# Altium integrated library Renesas Microcontroller H8S.IntLib: 670 symbols (part 25 of 70)
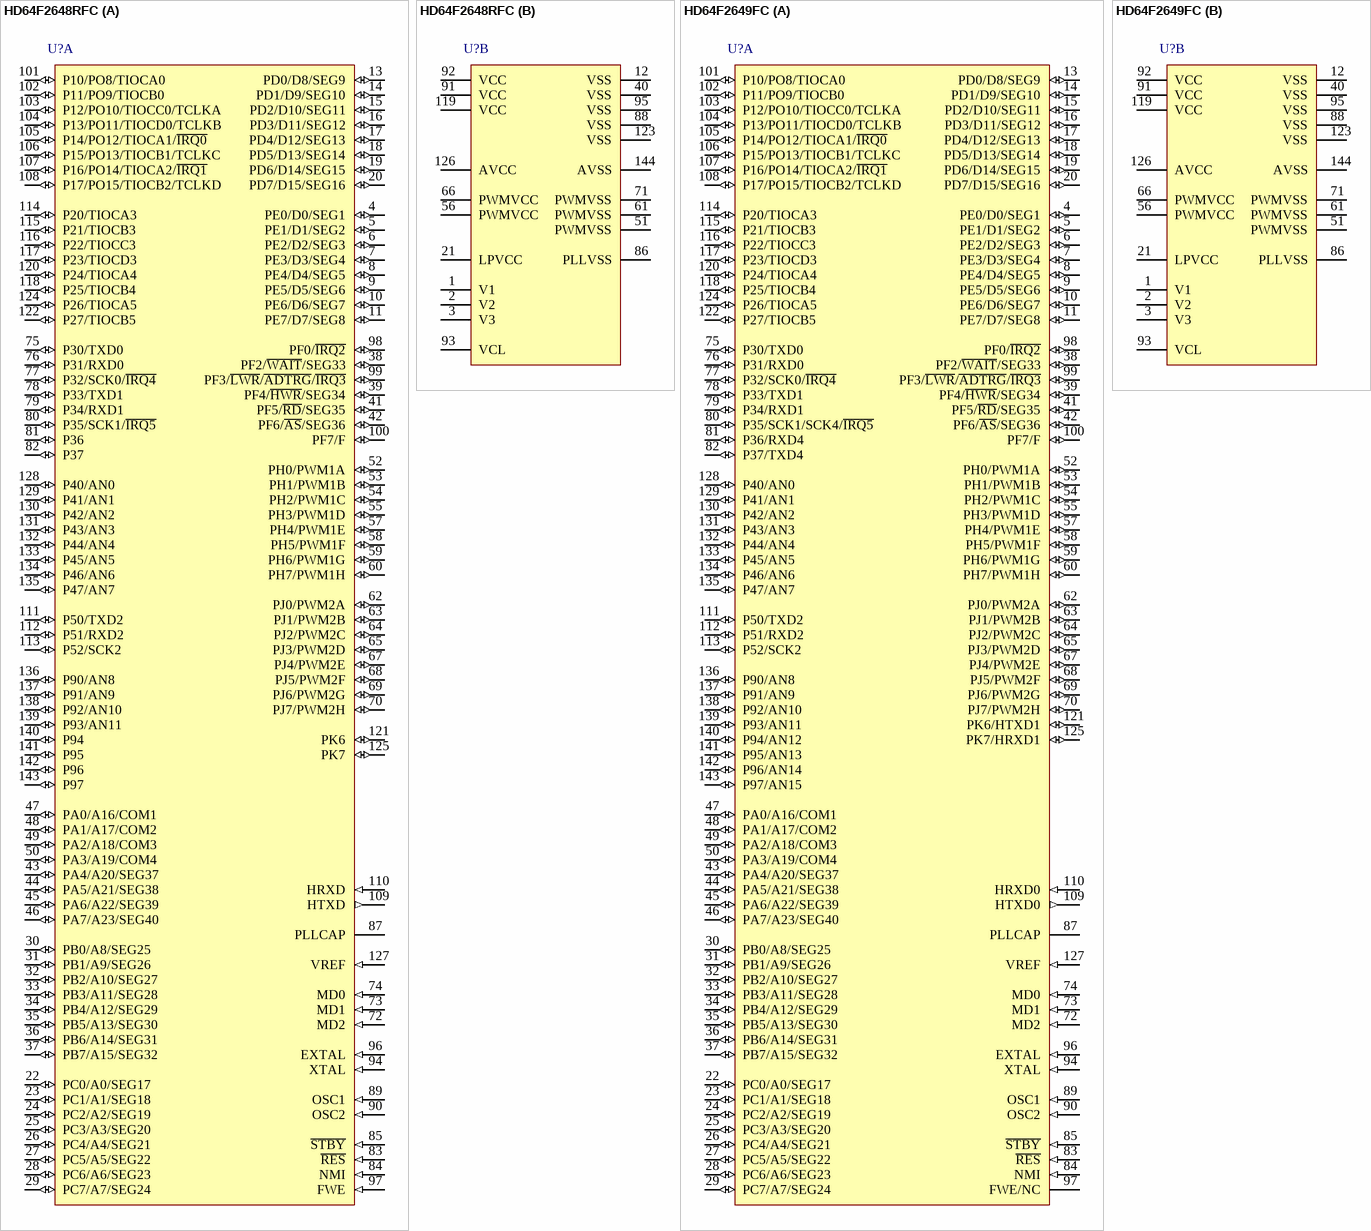
[diagram p257: symbols HD64F2648RFC to HD64F2649FC]

## HD64F2649FC
designator U?
Flash memory H8S/2600 Series, 2649 Group MCU, 256K ROM, 8K RAM, FP-144G Pkg; Published: 28-Aug-2009; DatasheetVersion: Rev.3.00, Feb-2009; PackageVersion: Sep-2005; PackageReference: PRQP0144KA-A; Publisher: Altium Limited; PackageDescription: 144-Pin Plastic Quad Flat Pack, 20 x 20 x 2.7 mm Body, 0.5 mm Pitch; Code_JEITA: P-QFP144-20x20-0.50; ComponentLink1Description: Manufacturer Link; ComponentLink1URL: http://sg.renesas.com/fmwk.jsp?cnt=h8s_family_landing.jsp&fp=/products/mpumcu/h8s_family/; ComponentLink2Description: Datasheet; ComponentLink2URL: http://documentation.renesas.com/eng/products/mpumcu/rej09b0200_h8s2649.pdf; ComponentLink3Description: Packaging Specification; ComponentLink3URL: http://sg.renesas.com/media/products/common_info/package/pdf/ic/code/prqp0144ka_a.pdf
footprint PRQP0144KA-A_N (Shrink QFP, 144-Leads, Body 20x20mm, Pitch 0.5mm, IPC Medium Density)
footprint PRQP0144KA-A_L (Shrink QFP, 144-Leads, Body 20x20mm, Pitch 0.5mm, IPC High Density)
footprint PRQP0144KA-A_M (Shrink QFP, 144-Leads, Body 20x20mm, Pitch 0.5mm, IPC Low Density)
part A pins: 4 PE0/D0/SEG1 (io), 5 PE1/D1/SEG2 (io), 6 PE2/D2/SEG3 (io), 7 PE3/D3/SEG4 (io), 8 PE4/D4/SEG5 (io), 9 PE5/D5/SEG6 (io), 10 PE6/D6/SEG7 (io), 11 PE7/D7/SEG8 (io), 13 PD0/D8/SEG9 (io), 14 PD1/D9/SEG10 (io), 15 PD2/D10/SEG11 (io), 16 PD3/D11/SEG12 (io), 17 PD4/D12/SEG13 (io), 18 PD5/D13/SEG14 (io), 19 PD6/D14/SEG15 (io), 20 PD7/D15/SEG16 (io), 22 PC0/A0/SEG17 (io), 23 PC1/A1/SEG18 (io), 24 PC2/A2/SEG19 (io), 25 PC3/A3/SEG20 (io), 26 PC4/A4/SEG21 (io), 27 PC5/A5/SEG22 (io), 28 PC6/A6/SEG23 (io), 29 PC7/A7/SEG24 (io), 30 PB0/A8/SEG25 (io), 31 PB1/A9/SEG26 (io), 32 PB2/A10/SEG27 (io), 33 PB3/A11/SEG28 (io), 34 PB4/A12/SEG29 (io), 35 PB5/A13/SEG30 (io), 36 PB6/A14/SEG31 (io), 37 PB7/A15/SEG32 (io), 38 PF2/~{WAIT}/SEG33 (io), 39 PF4/~{HWR}/SEG34 (io), 41 PF5/~{RD}/SEG35 (io), 42 PF6/~{AS}/SEG36 (io), 43 PA4/A20/SEG37 (io), 44 PA5/A21/SEG38 (io), 45 PA6/A22/SEG39 (io), 46 PA7/A23/SEG40 (io), 47 PA0/A16/COM1 (io), 48 PA1/A17/COM2 (io), 49 PA2/A18/COM3 (io), 50 PA3/A19/COM4 (io), 52 PH0/PWM1A (io), 53 PH1/PWM1B (io), 54 PH2/PWM1C (io), 55 PH3/PWM1D (io), 57 PH4/PWM1E (io), 58 PH5/PWM1F (io), 59 PH6/PWM1G (io), 60 PH7/PWM1H (io), 62 PJ0/PWM2A (io), 63 PJ1/PWM2B (io), 64 PJ2/PWM2C (io), 65 PJ3/PWM2D (io), 67 PJ4/PWM2E (io), 68 PJ5/PWM2F (io), 69 PJ6/PWM2G (io), 70 PJ7/PWM2H (io), 72 MD2 (in), 73 MD1 (in), 74 MD0 (in), 75 P30/TXD0 (io), 76 P31/RXD0 (io), 77 P32/SCK0/~{IRQ4} (io), 78 P33/TXD1 (io), 79 P34/RXD1 (io), 80 P35/SCK1/SCK4/~{IRQ5} (io), 81 P36/RXD4 (io), 82 P37/TXD4 (io), 83 ~{RES} (in), 84 NMI (in), 85 ~{STBY} (in), 87 PLLCAP, 89 OSC1 (in), 90 OSC2 (in), 94 XTAL (in), 96 EXTAL (in), 97 FWE/NC, 98 PF0/~{IRQ2} (io), 99 PF3/~{LWR}/~{ADTRG}/~{IRQ3} (io), 100 PF7/F (io), 101 P10/PO8/TIOCA0 (io), 102 P11/PO9/TIOCB0 (io), 103 P12/PO10/TIOCC0/TCLKA (io), 104 P13/PO11/TIOCD0/TCLKB (io), 105 P14/PO12/TIOCA1/~{IRQ0} (io), 106 P15/PO13/TIOCB1/TCLKC (io), 107 P16/PO14/TIOCA2/~{IRQ1} (io), 108 P17/PO15/TIOCB2/TCLKD (io), 109 HTXD0 (out), 110 HRXD0 (in), 111 P50/TXD2 (io), 112 P51/RXD2 (io), 113 P52/SCK2 (io), 114 P20/TIOCA3 (io), 115 P21/TIOCB3 (io), 116 P22/TIOCC3 (io), 117 P23/TIOCD3 (io), 118 P25/TIOCB4 (io), 120 P24/TIOCA4 (io), 121 PK6/HTXD1 (io), 122 P27/TIOCB5 (io), 124 P26/TIOCA5 (io), 125 PK7/HRXD1 (io), 127 VREF (in), 128 P40/AN0 (io), 129 P41/AN1 (io), 130 P42/AN2 (io), 131 P43/AN3 (io), 132 P44/AN4 (io), 133 P45/AN5 (io), 134 P46/AN6 (io), 135 P47/AN7 (io), 136 P90/AN8 (io), 137 P91/AN9 (io), 138 P92/AN10 (io), 139 P93/AN11 (io), 140 P94/AN12 (io), 141 P95/AN13 (io), 142 P96/AN14 (io), 143 P97/AN15 (io)
part B pins: 1 V1 (power), 2 V2 (power), 3 V3 (power), 12 VSS (power), 21 LPVCC (power), 40 VSS (power), 51 PWMVSS (power), 56 PWMVCC (power), 61 PWMVSS (power), 66 PWMVCC (power), 71 PWMVSS (power), 86 PLLVSS (power), 88 VSS (power), 91 VCC (power), 92 VCC (power), 93 VCL, 95 VSS (power), 119 VCC (power), 123 VSS (power), 126 AVCC (power), 144 AVSS (power)

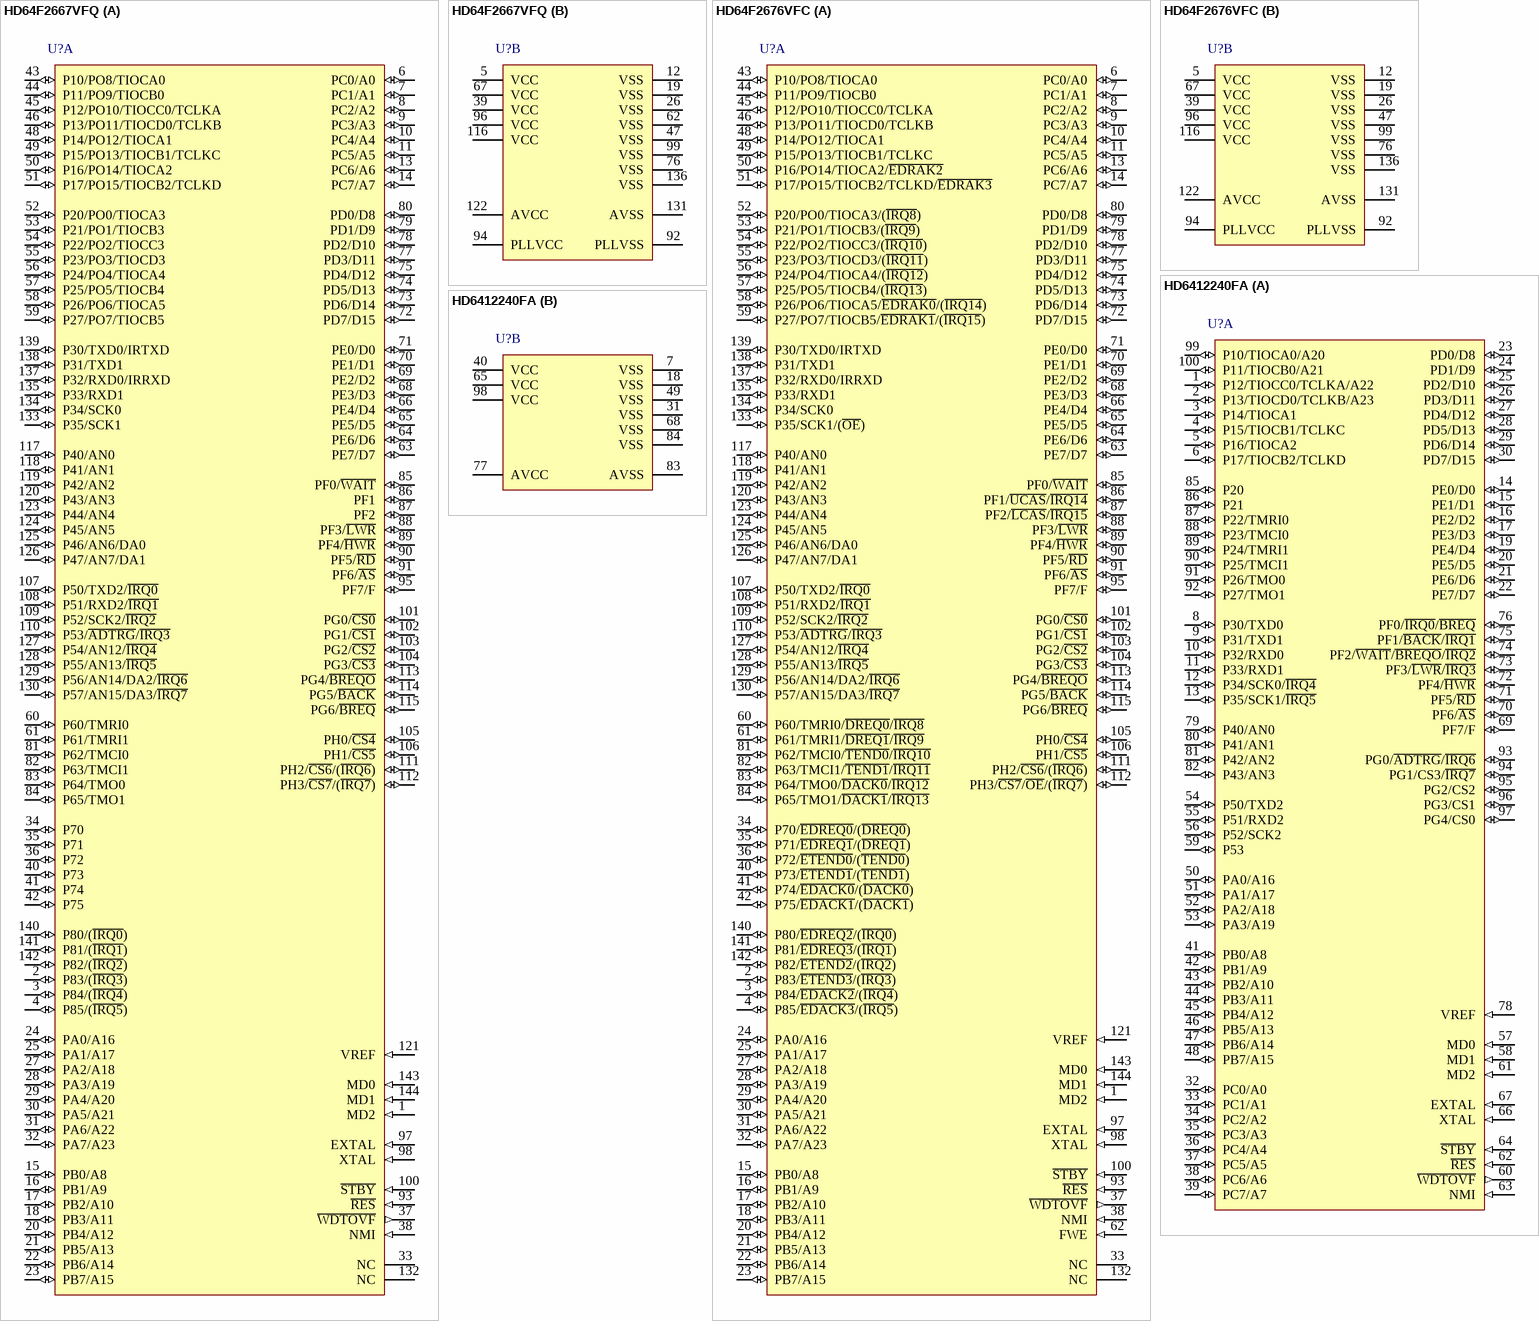
[diagram p87: symbols HD64F2667VFQ to HD6412240FA]

## HD64F2667VFQ
designator U?
Flash memory H8S/2600 Series, 2668 Group MCU, 384K ROM, 16K RAM, FP-144H Pkg; Published: 28-Aug-2009; DatasheetVersion: Rev.3.00, Feb-2006; PackageVersion: Sep-2005; PackageReference: PLQP0144KC-A; Publisher: Altium Limited; PackageDescription: 144-Pin Plastic Low Profile QFP, 20 x 20 x 1.45 mm Body, 0.5 mm Pitch; Code_JEITA: P-LQFP144-20x20-0.50; Code_IPC: SQFP50P2200X2200-144; ComponentLink1Description: Manufacturer Link; ComponentLink1URL: http://sg.renesas.com/fmwk.jsp?cnt=h8s_family_landing.jsp&fp=/products/mpumcu/h8s_family/; ComponentLink2Description: Datasheet; ComponentLink2URL: http://documentation.renesas.com/eng/products/mpumcu/rej09b0281_2668hm.pdf; ComponentLink3Description: Packaging Specification; ComponentLink3URL: http://sg.renesas.com/media/products/common_info/package/pdf/ic/code/plqp0144kc_a.pdf
footprint PLQP0144KC-A_N (Shrink QFP, 144-Leads, Body 20x20mm, Pitch 0.5mm, IPC Medium Density)
footprint PLQP0144KC-A_L (Shrink QFP, 144-Leads, Body 20x20mm, Pitch 0.5mm, IPC High Density)
footprint PLQP0144KC-A_M (Shrink QFP, 144-Leads, Body 20x20mm, Pitch 0.5mm, IPC Low Density)
part A pins: 1 MD2 (in), 2 P83/(~{IRQ3}) (io), 3 P84/(~{IRQ4}) (io), 4 P85/(~{IRQ5}) (io), 6 PC0/A0 (io), 7 PC1/A1 (io), 8 PC2/A2 (io), 9 PC3/A3 (io), 10 PC4/A4 (io), 11 PC5/A5 (io), 13 PC6/A6 (io), 14 PC7/A7 (io), 15 PB0/A8 (io), 16 PB1/A9 (io), 17 PB2/A10 (io), 18 PB3/A11 (io), 20 PB4/A12 (io), 21 PB5/A13 (io), 22 PB6/A14 (io), 23 PB7/A15 (io), 24 PA0/A16 (io), 25 PA1/A17 (io), 27 PA2/A18 (io), 28 PA3/A19 (io), 29 PA4/A20 (io), 30 PA5/A21 (io), 31 PA6/A22 (io), 32 PA7/A23 (io), 33 NC, 34 P70 (io), 35 P71 (io), 36 P72 (io), 37 ~{WDTOVF} (out), 38 NMI (in), 40 P73 (io), 41 P74 (io), 42 P75 (io), 43 P10/PO8/TIOCA0 (io), 44 P11/PO9/TIOCB0 (io), 45 P12/PO10/TIOCC0/TCLKA (io), 46 P13/PO11/TIOCD0/TCLKB (io), 48 P14/PO12/TIOCA1 (io), 49 P15/PO13/TIOCB1/TCLKC (io), 50 P16/PO14/TIOCA2 (io), 51 P17/PO15/TIOCB2/TCLKD (io), 52 P20/PO0/TIOCA3 (io), 53 P21/PO1/TIOCB3 (io), 54 P22/PO2/TIOCC3 (io), 55 P23/PO3/TIOCD3 (io), 56 P24/PO4/TIOCA4 (io), 57 P25/PO5/TIOCB4 (io), 58 P26/PO6/TIOCA5 (io), 59 P27/PO7/TIOCB5 (io), 60 P60/TMRI0 (io), 61 P61/TMRI1 (io), 63 PE7/D7 (io), 64 PE6/D6 (io), 65 PE5/D5 (io), 66 PE4/D4 (io), 68 PE3/D3 (io), 69 PE2/D2 (io), 70 PE1/D1 (io), 71 PE0/D0 (io), 72 PD7/D15 (io), 73 PD6/D14 (io), 74 PD5/D13 (io), 75 PD4/D12 (io), 77 PD3/D11 (io), 78 PD2/D10 (io), 79 PD1/D9 (io), 80 PD0/D8 (io), 81 P62/TMCI0 (io), 82 P63/TMCI1 (io), 83 P64/TMO0 (io), 84 P65/TMO1 (io), 85 PF0/~{WAIT} (io), 86 PF1 (io), 87 PF2 (io), 88 PF3/~{LWR} (io), 89 PF4/~{HWR} (io), 90 PF5/~{RD} (io), 91 PF6/~{AS} (io), 93 ~{RES} (in), 95 PF7/F (io), 97 EXTAL (in), 98 XTAL (in), 100 ~{STBY} (in), 101 PG0/~{CS0} (io), 102 PG1/~{CS1} (io), 103 PG2/~{CS2} (io), 104 PG3/~{CS3} (io), 105 PH0/~{CS4} (io), 106 PH1/~{CS5} (io), 107 P50/TXD2/~{IRQ0} (io), 108 P51/RXD2/~{IRQ1} (io), 109 P52/SCK2/~{IRQ2} (io), 110 P53/~{ADTRG}/~{IRQ3} (io), 111 PH2/~{CS6}/(~{IRQ6}) (io), 112 PH3/~{CS7}/(~{IRQ7}) (io), 113 PG4/~{BREQO} (io), 114 PG5/~{BACK} (io), 115 PG6/~{BREQ} (io), 117 P40/AN0 (io), 118 P41/AN1 (io), 119 P42/AN2 (io), 120 P43/AN3 (io), 121 VREF (in), 123 P44/AN4 (io), 124 P45/AN5 (io), 125 P46/AN6/DA0 (io), 126 P47/AN7/DA1 (io), 127 P54/AN12/~{IRQ4} (io), 128 P55/AN13/~{IRQ5} (io), 129 P56/AN14/DA2/~{IRQ6} (io), 130 P57/AN15/DA3/~{IRQ7} (io), 132 NC, 133 P35/SCK1 (io), 134 P34/SCK0 (io), 135 P33/RXD1 (io), 137 P32/RXD0/IRRXD (io), 138 P31/TXD1 (io), 139 P30/TXD0/IRTXD (io), 140 P80/(~{IRQ0}) (io), 141 P81/(~{IRQ1}) (io), 142 P82/(~{IRQ2}) (io), 143 MD0 (in), 144 MD1 (in)
part B pins: 5 VCC (power), 12 VSS (power), 19 VSS (power), 26 VSS (power), 39 VCC (power), 47 VSS (power), 62 VSS (power), 67 VCC (power), 76 VSS (power), 92 PLLVSS (power), 94 PLLVCC (power), 96 VCC (power), 99 VSS (power), 116 VCC (power), 122 AVCC (power), 131 AVSS (power), 136 VSS (power)

## HD64F2676VFC
designator U?
Flash memory H8S/2600 Series, 2678 Group MCU, 256K ROM, 8K RAM, FP-144G Pkg; Published: 28-Aug-2009; DatasheetVersion: Rev.3.00, Mar-2006; PackageVersion: Sep-2005; PackageReference: PRQP0144KA-A; Publisher: Altium Limited; PackageDescription: 144-Pin Plastic Quad Flat Pack, 20 x 20 x 2.7 mm Body, 0.5 mm Pitch; Code_JEITA: P-QFP144-20x20-0.50; ComponentLink1Description: Manufacturer Link; ComponentLink1URL: http://sg.renesas.com/fmwk.jsp?cnt=h8s_family_landing.jsp&fp=/products/mpumcu/h8s_family/; ComponentLink2Description: Datasheet; ComponentLink2URL: http://documentation.renesas.com/eng/products/mpumcu/rej09b0283_2678hm.pdf; ComponentLink3Description: Packaging Specification; ComponentLink3URL: http://sg.renesas.com/media/products/common_info/package/pdf/ic/code/prqp0144ka_a.pdf
footprint PRQP0144KA-A_N (Shrink QFP, 144-Leads, Body 20x20mm, Pitch 0.5mm, IPC Medium Density)
footprint PRQP0144KA-A_L (Shrink QFP, 144-Leads, Body 20x20mm, Pitch 0.5mm, IPC High Density)
footprint PRQP0144KA-A_M (Shrink QFP, 144-Leads, Body 20x20mm, Pitch 0.5mm, IPC Low Density)
part A pins: 1 MD2 (in), 2 P83/~{ETEND3}/(~{IRQ3}) (io), 3 P84/~{EDACK2}/(~{IRQ4}) (io), 4 P85/~{EDACK3}/(~{IRQ5}) (io), 6 PC0/A0 (io), 7 PC1/A1 (io), 8 PC2/A2 (io), 9 PC3/A3 (io), 10 PC4/A4 (io), 11 PC5/A5 (io), 13 PC6/A6 (io), 14 PC7/A7 (io), 15 PB0/A8 (io), 16 PB1/A9 (io), 17 PB2/A10 (io), 18 PB3/A11 (io), 20 PB4/A12 (io), 21 PB5/A13 (io), 22 PB6/A14 (io), 23 PB7/A15 (io), 24 PA0/A16 (io), 25 PA1/A17 (io), 27 PA2/A18 (io), 28 PA3/A19 (io), 29 PA4/A20 (io), 30 PA5/A21 (io), 31 PA6/A22 (io), 32 PA7/A23 (io), 33 NC, 34 P70/~{EDREQ0}/(~{DREQ0}) (io), 35 P71/~{EDREQ1}/(~{DREQ1}) (io), 36 P72/~{ETEND0}/(~{TEND0}) (io), 37 ~{WDTOVF} (out), 38 NMI (in), 40 P73/~{ETEND1}/(~{TEND1}) (io), 41 P74/~{EDACK0}/(~{DACK0}) (io), 42 P75/~{EDACK1}/(~{DACK1}) (io), 43 P10/PO8/TIOCA0 (io), 44 P11/PO9/TIOCB0 (io), 45 P12/PO10/TIOCC0/TCLKA (io), 46 P13/PO11/TIOCD0/TCLKB (io), 48 P14/PO12/TIOCA1 (io), 49 P15/PO13/TIOCB1/TCLKC (io), 50 P16/PO14/TIOCA2/~{EDRAK2} (io), 51 P17/PO15/TIOCB2/TCLKD/~{EDRAK3} (io), 52 P20/PO0/TIOCA3/(~{IRQ8}) (io), 53 P21/PO1/TIOCB3/(~{IRQ9}) (io), 54 P22/PO2/TIOCC3/(~{IRQ10}) (io), 55 P23/PO3/TIOCD3/(~{IRQ11}) (io), 56 P24/PO4/TIOCA4/(~{IRQ12}) (io), 57 P25/PO5/TIOCB4/(~{IRQ13}) (io), 58 P26/PO6/TIOCA5/~{EDRAK0}/(~{IRQ14}) (io), 59 P27/PO7/TIOCB5/~{EDRAK1}/(~{IRQ15}) (io), 60 P60/TMRI0/~{DREQ0}/~{IRQ8} (io), 61 P61/TMRI1/~{DREQ1}/~{IRQ9} (io), 62 FWE (in), 63 PE7/D7 (io), 64 PE6/D6 (io), 65 PE5/D5 (io), 66 PE4/D4 (io), 68 PE3/D3 (io), 69 PE2/D2 (io), 70 PE1/D1 (io), 71 PE0/D0 (io), 72 PD7/D15 (io), 73 PD6/D14 (io), 74 PD5/D13 (io), 75 PD4/D12 (io), 77 PD3/D11 (io), 78 PD2/D10 (io), 79 PD1/D9 (io), 80 PD0/D8 (io), 81 P62/TMCI0/~{TEND0}/~{IRQ10} (io), 82 P63/TMCI1/~{TEND1}/~{IRQ11} (io), 83 P64/TMO0/~{DACK0}/~{IRQ12} (io), 84 P65/TMO1/~{DACK1}/~{IRQ13} (io), 85 PF0/~{WAIT} (io), 86 PF1/~{UCAS}/~{IRQ14} (io), 87 PF2/~{LCAS}/~{IRQ15} (io), 88 PF3/~{LWR} (io), 89 PF4/~{HWR} (io), 90 PF5/~{RD} (io), 91 PF6/~{AS} (io), 93 ~{RES} (in), 95 PF7/F (io), 97 EXTAL (in), 98 XTAL (in), 100 ~{STBY} (in), 101 PG0/~{CS0} (io), 102 PG1/~{CS1} (io), 103 PG2/~{CS2} (io), 104 PG3/~{CS3} (io), 105 PH0/~{CS4} (io), 106 PH1/~{CS5} (io), 107 P50/TXD2/~{IRQ0} (io), 108 P51/RXD2/~{IRQ1} (io), 109 P52/SCK2/~{IRQ2} (io), 110 P53/~{ADTRG}/~{IRQ3} (io), 111 PH2/~{CS6}/(~{IRQ6}) (io), 112 PH3/~{CS7}/~{OE}/(~{IRQ7}) (io), 113 PG4/~{BREQO} (io), 114 PG5/~{BACK} (io), 115 PG6/~{BREQ} (io), 117 P40/AN0 (io), 118 P41/AN1 (io), 119 P42/AN2 (io), 120 P43/AN3 (io), 121 VREF (in), 123 P44/AN4 (io), 124 P45/AN5 (io), 125 P46/AN6/DA0 (io), 126 P47/AN7/DA1 (io), 127 P54/AN12/~{IRQ4} (io), 128 P55/AN13/~{IRQ5} (io), 129 P56/AN14/DA2/~{IRQ6} (io), 130 P57/AN15/DA3/~{IRQ7} (io), 132 NC, 133 P35/SCK1/(~{OE}) (io), 134 P34/SCK0 (io), 135 P33/RXD1 (io), 137 P32/RXD0/IRRXD (io), 138 P31/TXD1 (io), 139 P30/TXD0/IRTXD (io), 140 P80/~{EDREQ2}/(~{IRQ0}) (io), 141 P81/~{EDREQ3}/(~{IRQ1}) (io), 142 P82/~{ETEND2}/(~{IRQ2}) (io), 143 MD0 (in), 144 MD1 (in)
part B pins: 5 VCC (power), 12 VSS (power), 19 VSS (power), 26 VSS (power), 39 VCC (power), 47 VSS (power), 67 VCC (power), 76 VSS (power), 92 PLLVSS (power), 94 PLLVCC (power), 96 VCC (power), 99 VSS (power), 116 VCC (power), 122 AVCC (power), 131 AVSS (power), 136 VSS (power)

## HD6412240FA
designator U?
ROMless H8S/2200 Series, 2245 Group MCU, 4K RAM, FP-100B Pkg; Published: 28-Aug-2009; DatasheetVersion: Rev.3.00, Mar-2007; PackageVersion: Sep-2009; PackageReference: PRQP0100KA-A; Publisher: Altium Limited; PackageDescription: 100-Pin Plastic Quad Flat Pack, 14 x 14 x 2.7 mm Body, 0.5 mm Pitch; Code_JEITA: P-QFP100-14x14-0.50; ComponentLink1Description: Manufacturer Link; ComponentLink1URL: http://sg.renesas.com/fmwk.jsp?cnt=h8s_family_landing.jsp&fp=/products/mpumcu/h8s_family/; ComponentLink2Description: Datasheet; ComponentLink2URL: http://documentation.renesas.com/eng/products/mpumcu/rej09b0355_2245hm.pdf; ComponentLink3Description: Packaging Specification; ComponentLink3URL: http://sg.renesas.com/media/products/common_info/package/pdf/ic/code/prqp0100ka_a.pdf
footprint PRQP0100KA-A_N (Shrink QFP, 100-Leads, Body 14x14mm, Pitch 0.5mm, IPC Medium Density)
footprint PRQP0100KA-A_L (Shrink QFP, 100-Leads, Body 14x14mm, Pitch 0.5mm, IPC High Density)
footprint PRQP0100KA-A_M (Shrink QFP, 100-Leads, Body 14x14mm, Pitch 0.5mm, IPC Low Density)
part A pins: 1 P12/TIOCC0/TCLKA/A22 (io), 2 P13/TIOCD0/TCLKB/A23 (io), 3 P14/TIOCA1 (io), 4 P15/TIOCB1/TCLKC (io), 5 P16/TIOCA2 (io), 6 P17/TIOCB2/TCLKD (io), 8 P30/TXD0 (io), 9 P31/TXD1 (io), 10 P32/RXD0 (io), 11 P33/RXD1 (io), 12 P34/SCK0/~{IRQ4} (io), 13 P35/SCK1/~{IRQ5} (io), 14 PE0/D0 (io), 15 PE1/D1 (io), 16 PE2/D2 (io), 17 PE3/D3 (io), 19 PE4/D4 (io), 20 PE5/D5 (io), 21 PE6/D6 (io), 22 PE7/D7 (io), 23 PD0/D8 (io), 24 PD1/D9 (io), 25 PD2/D10 (io), 26 PD3/D11 (io), 27 PD4/D12 (io), 28 PD5/D13 (io), 29 PD6/D14 (io), 30 PD7/D15 (io), 32 PC0/A0 (io), 33 PC1/A1 (io), 34 PC2/A2 (io), 35 PC3/A3 (io), 36 PC4/A4 (io), 37 PC5/A5 (io), 38 PC6/A6 (io), 39 PC7/A7 (io), 41 PB0/A8 (io), 42 PB1/A9 (io), 43 PB2/A10 (io), 44 PB3/A11 (io), 45 PB4/A12 (io), 46 PB5/A13 (io), 47 PB6/A14 (io), 48 PB7/A15 (io), 50 PA0/A16 (io), 51 PA1/A17 (io), 52 PA2/A18 (io), 53 PA3/A19 (io), 54 P50/TXD2 (io), 55 P51/RXD2 (io), 56 P52/SCK2 (io), 57 MD0 (in), 58 MD1 (in), 59 P53 (io), 60 ~{WDTOVF} (out), 61 MD2 (in), 62 ~{RES} (in), 63 NMI (in), 64 ~{STBY} (in), 66 XTAL (in), 67 EXTAL (in), 69 PF7/F (io), 70 PF6/~{AS} (io), 71 PF5/~{RD} (io), 72 PF4/~{HWR} (io), 73 PF3/~{LWR}/~{IRQ3} (io), 74 PF2/~{WAIT}/~{BREQO}/~{IRQ2} (io), 75 PF1/~{BACK}/~{IRQ1} (io), 76 PF0/~{IRQ0}/~{BREQ} (io), 78 VREF (in), 79 P40/AN0 (io), 80 P41/AN1 (io), 81 P42/AN2 (io), 82 P43/AN3 (io), 85 P20 (io), 86 P21 (io), 87 P22/TMRI0 (io), 88 P23/TMCI0 (io), 89 P24/TMRI1 (io), 90 P25/TMCI1 (io), 91 P26/TMO0 (io), 92 P27/TMO1 (io), 93 PG0/~{ADTRG}/~{IRQ6} (io), 94 PG1/CS3/~{IRQ7} (io), 95 PG2/CS2 (io), 96 PG3/CS1 (io), 97 PG4/CS0 (io), 99 P10/TIOCA0/A20 (io), 100 P11/TIOCB0/A21 (io)
part B pins: 7 VSS (power), 18 VSS (power), 31 VSS (power), 40 VCC (power), 49 VSS (power), 65 VCC (power), 68 VSS (power), 77 AVCC (power), 83 AVSS (power), 84 VSS (power), 98 VCC (power)

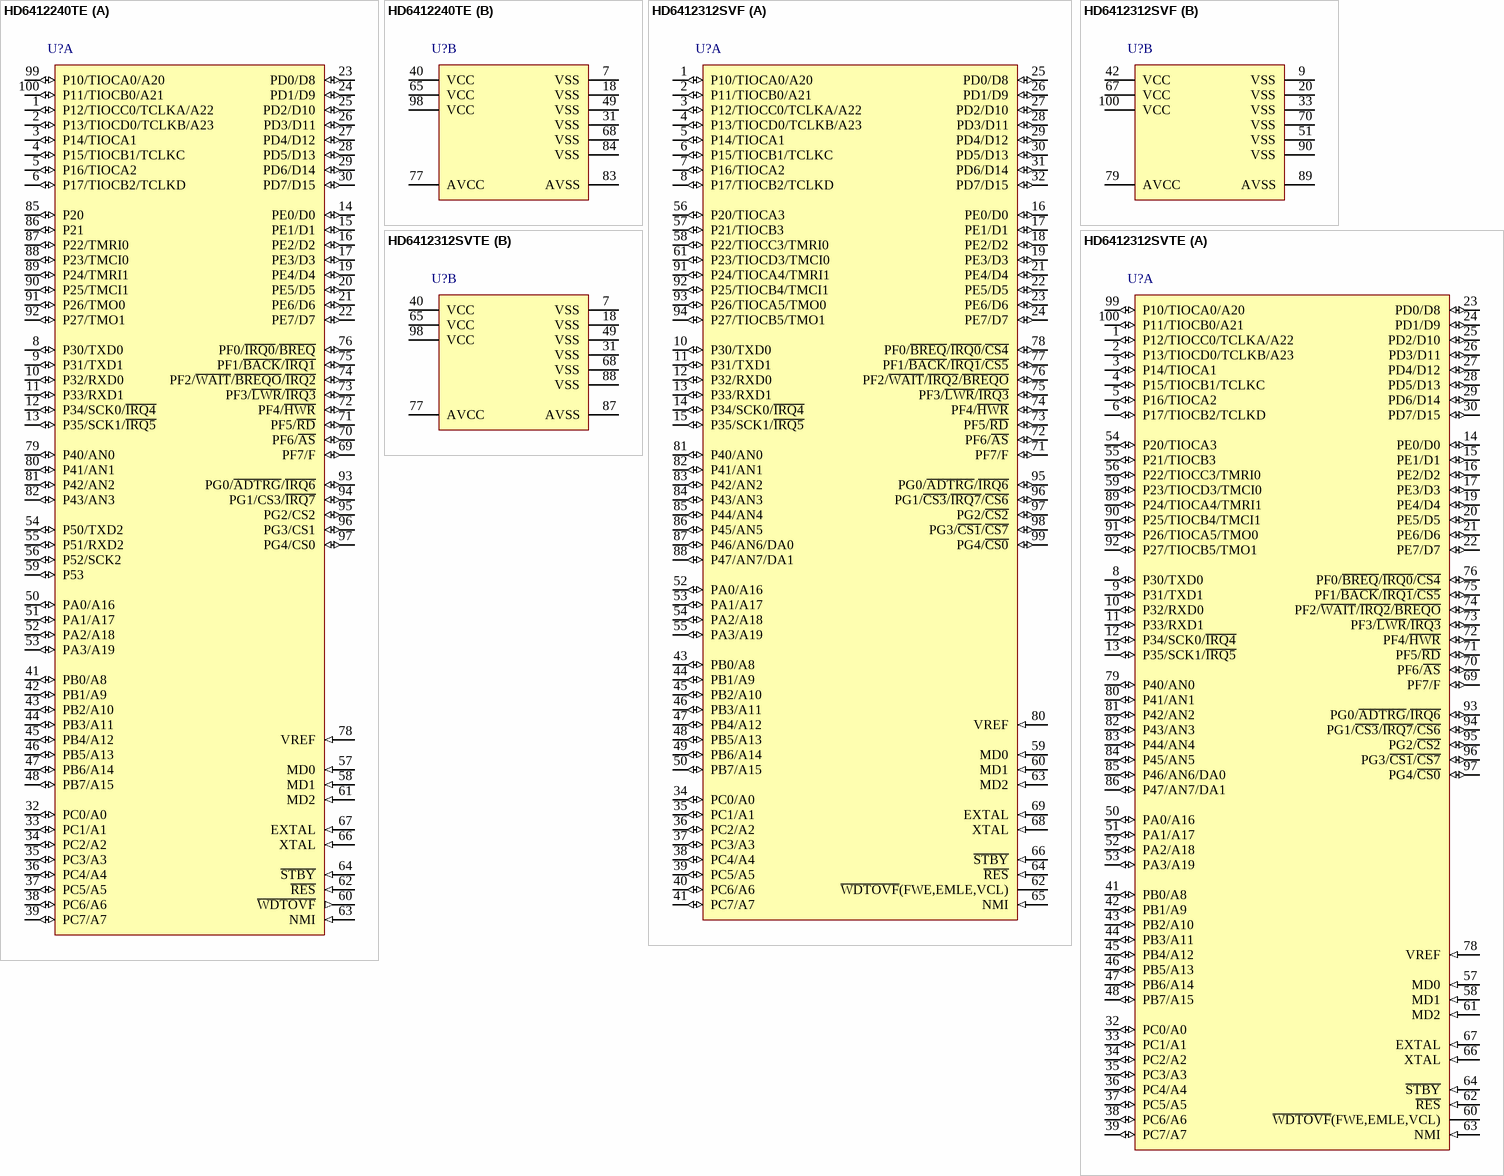
[diagram p88: symbols HD6412240TE to HD6412312SVTE]

## HD6412240TE
designator U?
ROMless H8S/2200 Series, 2245 Group MCU, 4K RAM, TFP-100B Pkg; Published: 28-Aug-2009; DatasheetVersion: Rev.3.00, Mar-2007; PackageVersion: Sep-2005; PackageReference: PTQP0100KA-A; Publisher: Altium Limited; PackageDescription: 100-Pin Plastic Thin Quad Flat Pack, 14 x 14 x 1.0 mm Body, 0.5 mm Pitch; Code_JEITA: P-TQFP100-14x14-0.50; ComponentLink1Description: Manufacturer Link; ComponentLink1URL: http://sg.renesas.com/fmwk.jsp?cnt=h8s_family_landing.jsp&fp=/products/mpumcu/h8s_family/; ComponentLink2Description: Datasheet; ComponentLink2URL: http://documentation.renesas.com/eng/products/mpumcu/rej09b0355_2245hm.pdf; ComponentLink3Description: Packaging Specification; ComponentLink3URL: http://sg.renesas.com/media/products/common_info/package/pdf/ic/code/ptqp0100ka_a.pdf
footprint PTQP0100KA-A_N (Thin QFP, 100-Leads, Body 14x14mm, Pitch 0.5mm, IPC Medium Density)
footprint PTQP0100KA-A_L (Thin QFP, 100-Leads, Body 14x14mm, Pitch 0.5mm, IPC High Density)
footprint PTQP0100KA-A_M (Thin QFP, 100-Leads, Body 14x14mm, Pitch 0.5mm, IPC Low Density)
part A pins: 1 P12/TIOCC0/TCLKA/A22 (io), 2 P13/TIOCD0/TCLKB/A23 (io), 3 P14/TIOCA1 (io), 4 P15/TIOCB1/TCLKC (io), 5 P16/TIOCA2 (io), 6 P17/TIOCB2/TCLKD (io), 8 P30/TXD0 (io), 9 P31/TXD1 (io), 10 P32/RXD0 (io), 11 P33/RXD1 (io), 12 P34/SCK0/~{IRQ4} (io), 13 P35/SCK1/~{IRQ5} (io), 14 PE0/D0 (io), 15 PE1/D1 (io), 16 PE2/D2 (io), 17 PE3/D3 (io), 19 PE4/D4 (io), 20 PE5/D5 (io), 21 PE6/D6 (io), 22 PE7/D7 (io), 23 PD0/D8 (io), 24 PD1/D9 (io), 25 PD2/D10 (io), 26 PD3/D11 (io), 27 PD4/D12 (io), 28 PD5/D13 (io), 29 PD6/D14 (io), 30 PD7/D15 (io), 32 PC0/A0 (io), 33 PC1/A1 (io), 34 PC2/A2 (io), 35 PC3/A3 (io), 36 PC4/A4 (io), 37 PC5/A5 (io), 38 PC6/A6 (io), 39 PC7/A7 (io), 41 PB0/A8 (io), 42 PB1/A9 (io), 43 PB2/A10 (io), 44 PB3/A11 (io), 45 PB4/A12 (io), 46 PB5/A13 (io), 47 PB6/A14 (io), 48 PB7/A15 (io), 50 PA0/A16 (io), 51 PA1/A17 (io), 52 PA2/A18 (io), 53 PA3/A19 (io), 54 P50/TXD2 (io), 55 P51/RXD2 (io), 56 P52/SCK2 (io), 57 MD0 (in), 58 MD1 (in), 59 P53 (io), 60 ~{WDTOVF} (out), 61 MD2 (in), 62 ~{RES} (in), 63 NMI (in), 64 ~{STBY} (in), 66 XTAL (in), 67 EXTAL (in), 69 PF7/F (io), 70 PF6/~{AS} (io), 71 PF5/~{RD} (io), 72 PF4/~{HWR} (io), 73 PF3/~{LWR}/~{IRQ3} (io), 74 PF2/~{WAIT}/~{BREQO}/~{IRQ2} (io), 75 PF1/~{BACK}/~{IRQ1} (io), 76 PF0/~{IRQ0}/~{BREQ} (io), 78 VREF (in), 79 P40/AN0 (io), 80 P41/AN1 (io), 81 P42/AN2 (io), 82 P43/AN3 (io), 85 P20 (io), 86 P21 (io), 87 P22/TMRI0 (io), 88 P23/TMCI0 (io), 89 P24/TMRI1 (io), 90 P25/TMCI1 (io), 91 P26/TMO0 (io), 92 P27/TMO1 (io), 93 PG0/~{ADTRG}/~{IRQ6} (io), 94 PG1/CS3/~{IRQ7} (io), 95 PG2/CS2 (io), 96 PG3/CS1 (io), 97 PG4/CS0 (io), 99 P10/TIOCA0/A20 (io), 100 P11/TIOCB0/A21 (io)
part B pins: 7 VSS (power), 18 VSS (power), 31 VSS (power), 40 VCC (power), 49 VSS (power), 65 VCC (power), 68 VSS (power), 77 AVCC (power), 83 AVSS (power), 84 VSS (power), 98 VCC (power)

## HD6412312SVF
designator U?
ROMless H8S/2300 Series, 2319 Group MCU, 8K RAM, FP-100A Pkg; Published: 28-Aug-2009; DatasheetVersion: Rev.7.00, Feb-2007; PackageVersion: Sep-2005; PackageReference: PRQP0100JE-B; Publisher: Altium Limited; PackageDescription: 100-Pin Plastic Quad Flat Pack, 20 x 14 x 2.7 mm Body, 0.65 mm Pitch; Code_JEITA: P-QFP100-14x20-0.65; ComponentLink1Description: Manufacturer Link; ComponentLink1URL: http://sg.renesas.com/fmwk.jsp?cnt=h8s_family_landing.jsp&fp=/products/mpumcu/h8s_family/; ComponentLink2Description: Datasheet; ComponentLink2URL: http://documentation.renesas.com/eng/products/mpumcu/rej09b0089_h8s2319.pdf; ComponentLink3Description: Packaging Specification; ComponentLink3URL: http://sg.renesas.com/media/products/common_info/package/pdf/ic/code/prqp0100je_b.pdf
footprint PRQP0100JE-B_N (QFP, 100-Leads, Body 20x14mm, Pitch 0.65mm, IPC Medium Density)
footprint PRQP0100JE-B_L (QFP, 100-Leads, Body 20x14mm, Pitch 0.65mm, IPC High Density)
footprint PRQP0100JE-B_M (QFP, 100-Leads, Body 20x14mm, Pitch 0.65mm, IPC Low Density)
part A pins: 1 P10/TIOCA0/A20 (io), 2 P11/TIOCB0/A21 (io), 3 P12/TIOCC0/TCLKA/A22 (io), 4 P13/TIOCD0/TCLKB/A23 (io), 5 P14/TIOCA1 (io), 6 P15/TIOCB1/TCLKC (io), 7 P16/TIOCA2 (io), 8 P17/TIOCB2/TCLKD (io), 10 P30/TXD0 (io), 11 P31/TXD1 (io), 12 P32/RXD0 (io), 13 P33/RXD1 (io), 14 P34/SCK0/~{IRQ4} (io), 15 P35/SCK1/~{IRQ5} (io), 16 PE0/D0 (io), 17 PE1/D1 (io), 18 PE2/D2 (io), 19 PE3/D3 (io), 21 PE4/D4 (io), 22 PE5/D5 (io), 23 PE6/D6 (io), 24 PE7/D7 (io), 25 PD0/D8 (io), 26 PD1/D9 (io), 27 PD2/D10 (io), 28 PD3/D11 (io), 29 PD4/D12 (io), 30 PD5/D13 (io), 31 PD6/D14 (io), 32 PD7/D15 (io), 34 PC0/A0 (io), 35 PC1/A1 (io), 36 PC2/A2 (io), 37 PC3/A3 (io), 38 PC4/A4 (io), 39 PC5/A5 (io), 40 PC6/A6 (io), 41 PC7/A7 (io), 43 PB0/A8 (io), 44 PB1/A9 (io), 45 PB2/A10 (io), 46 PB3/A11 (io), 47 PB4/A12 (io), 48 PB5/A13 (io), 49 PB6/A14 (io), 50 PB7/A15 (io), 52 PA0/A16 (io), 53 PA1/A17 (io), 54 PA2/A18 (io), 55 PA3/A19 (io), 56 P20/TIOCA3 (io), 57 P21/TIOCB3 (io), 58 P22/TIOCC3/TMRI0 (io), 59 MD0 (in), 60 MD1 (in), 61 P23/TIOCD3/TMCI0 (io), 62 ~{WDTOVF}(FWE,EMLE,VCL), 63 MD2 (in), 64 ~{RES} (in), 65 NMI (in), 66 ~{STBY} (in), 68 XTAL (in), 69 EXTAL (in), 71 PF7/F (io), 72 PF6/~{AS} (io), 73 PF5/~{RD} (io), 74 PF4/~{HWR} (io), 75 PF3/~{LWR}/~{IRQ3} (io), 76 PF2/~{WAIT}/~{IRQ2}/~{BREQO} (io), 77 PF1/~{BACK}/~{IRQ1}/~{CS5} (io), 78 PF0/~{BREQ}/~{IRQ0}/~{CS4} (io), 80 VREF (in), 81 P40/AN0 (io), 82 P41/AN1 (io), 83 P42/AN2 (io), 84 P43/AN3 (io), 85 P44/AN4 (io), 86 P45/AN5 (io), 87 P46/AN6/DA0 (io), 88 P47/AN7/DA1 (io), 91 P24/TIOCA4/TMRI1 (io), 92 P25/TIOCB4/TMCI1 (io), 93 P26/TIOCA5/TMO0 (io), 94 P27/TIOCB5/TMO1 (io), 95 PG0/~{ADTRG}/~{IRQ6} (io), 96 PG1/~{CS3}/~{IRQ7}/~{CS6} (io), 97 PG2/~{CS2} (io), 98 PG3/~{CS1}/~{CS7} (io), 99 PG4/~{CS0} (io)
part B pins: 9 VSS (power), 20 VSS (power), 33 VSS (power), 42 VCC (power), 51 VSS (power), 67 VCC (power), 70 VSS (power), 79 AVCC (power), 89 AVSS (power), 90 VSS (power), 100 VCC (power)

## HD6412312SVTE
designator U?
ROMless H8S/2300 Series, 2319 Group MCU, 8K RAM, TFP-100B Pkg; Published: 28-Aug-2009; DatasheetVersion: Rev.7.00, Feb-2007; PackageVersion: Sep-2005; PackageReference: PTQP0100KA-A; Publisher: Altium Limited; PackageDescription: 100-Pin Plastic Thin Quad Flat Pack, 14 x 14 x 1.0 mm Body, 0.5 mm Pitch; Code_JEITA: P-TQFP100-14x14-0.50; ComponentLink1Description: Manufacturer Link; ComponentLink1URL: http://sg.renesas.com/fmwk.jsp?cnt=h8s_family_landing.jsp&fp=/products/mpumcu/h8s_family/; ComponentLink2Description: Datasheet; ComponentLink2URL: http://documentation.renesas.com/eng/products/mpumcu/rej09b0089_h8s2319.pdf; ComponentLink3Description: Packaging Specification; ComponentLink3URL: http://sg.renesas.com/media/products/common_info/package/pdf/ic/code/ptqp0100ka_a.pdf
footprint PTQP0100KA-A_N (Thin QFP, 100-Leads, Body 14x14mm, Pitch 0.5mm, IPC Medium Density)
footprint PTQP0100KA-A_L (Thin QFP, 100-Leads, Body 14x14mm, Pitch 0.5mm, IPC High Density)
footprint PTQP0100KA-A_M (Thin QFP, 100-Leads, Body 14x14mm, Pitch 0.5mm, IPC Low Density)
part A pins: 1 P12/TIOCC0/TCLKA/A22 (io), 2 P13/TIOCD0/TCLKB/A23 (io), 3 P14/TIOCA1 (io), 4 P15/TIOCB1/TCLKC (io), 5 P16/TIOCA2 (io), 6 P17/TIOCB2/TCLKD (io), 8 P30/TXD0 (io), 9 P31/TXD1 (io), 10 P32/RXD0 (io), 11 P33/RXD1 (io), 12 P34/SCK0/~{IRQ4} (io), 13 P35/SCK1/~{IRQ5} (io), 14 PE0/D0 (io), 15 PE1/D1 (io), 16 PE2/D2 (io), 17 PE3/D3 (io), 19 PE4/D4 (io), 20 PE5/D5 (io), 21 PE6/D6 (io), 22 PE7/D7 (io), 23 PD0/D8 (io), 24 PD1/D9 (io), 25 PD2/D10 (io), 26 PD3/D11 (io), 27 PD4/D12 (io), 28 PD5/D13 (io), 29 PD6/D14 (io), 30 PD7/D15 (io), 32 PC0/A0 (io), 33 PC1/A1 (io), 34 PC2/A2 (io), 35 PC3/A3 (io), 36 PC4/A4 (io), 37 PC5/A5 (io), 38 PC6/A6 (io), 39 PC7/A7 (io), 41 PB0/A8 (io), 42 PB1/A9 (io), 43 PB2/A10 (io), 44 PB3/A11 (io), 45 PB4/A12 (io), 46 PB5/A13 (io), 47 PB6/A14 (io), 48 PB7/A15 (io), 50 PA0/A16 (io), 51 PA1/A17 (io), 52 PA2/A18 (io), 53 PA3/A19 (io), 54 P20/TIOCA3 (io), 55 P21/TIOCB3 (io), 56 P22/TIOCC3/TMRI0 (io), 57 MD0 (in), 58 MD1 (in), 59 P23/TIOCD3/TMCI0 (io), 60 ~{WDTOVF}(FWE,EMLE,VCL), 61 MD2 (in), 62 ~{RES} (in), 63 NMI (in), 64 ~{STBY} (in), 66 XTAL (in), 67 EXTAL (in), 69 PF7/F (io), 70 PF6/~{AS} (io), 71 PF5/~{RD} (io), 72 PF4/~{HWR} (io), 73 PF3/~{LWR}/~{IRQ3} (io), 74 PF2/~{WAIT}/~{IRQ2}/~{BREQO} (io), 75 PF1/~{BACK}/~{IRQ1}/~{CS5} (io), 76 PF0/~{BREQ}/~{IRQ0}/~{CS4} (io), 78 VREF (in), 79 P40/AN0 (io), 80 P41/AN1 (io), 81 P42/AN2 (io), 82 P43/AN3 (io), 83 P44/AN4 (io), 84 P45/AN5 (io), 85 P46/AN6/DA0 (io), 86 P47/AN7/DA1 (io), 89 P24/TIOCA4/TMRI1 (io), 90 P25/TIOCB4/TMCI1 (io), 91 P26/TIOCA5/TMO0 (io), 92 P27/TIOCB5/TMO1 (io), 93 PG0/~{ADTRG}/~{IRQ6} (io), 94 PG1/~{CS3}/~{IRQ7}/~{CS6} (io), 95 PG2/~{CS2} (io), 96 PG3/~{CS1}/~{CS7} (io), 97 PG4/~{CS0} (io), 99 P10/TIOCA0/A20 (io), 100 P11/TIOCB0/A21 (io)
part B pins: 7 VSS (power), 18 VSS (power), 31 VSS (power), 40 VCC (power), 49 VSS (power), 65 VCC (power), 68 VSS (power), 77 AVCC (power), 87 AVSS (power), 88 VSS (power), 98 VCC (power)

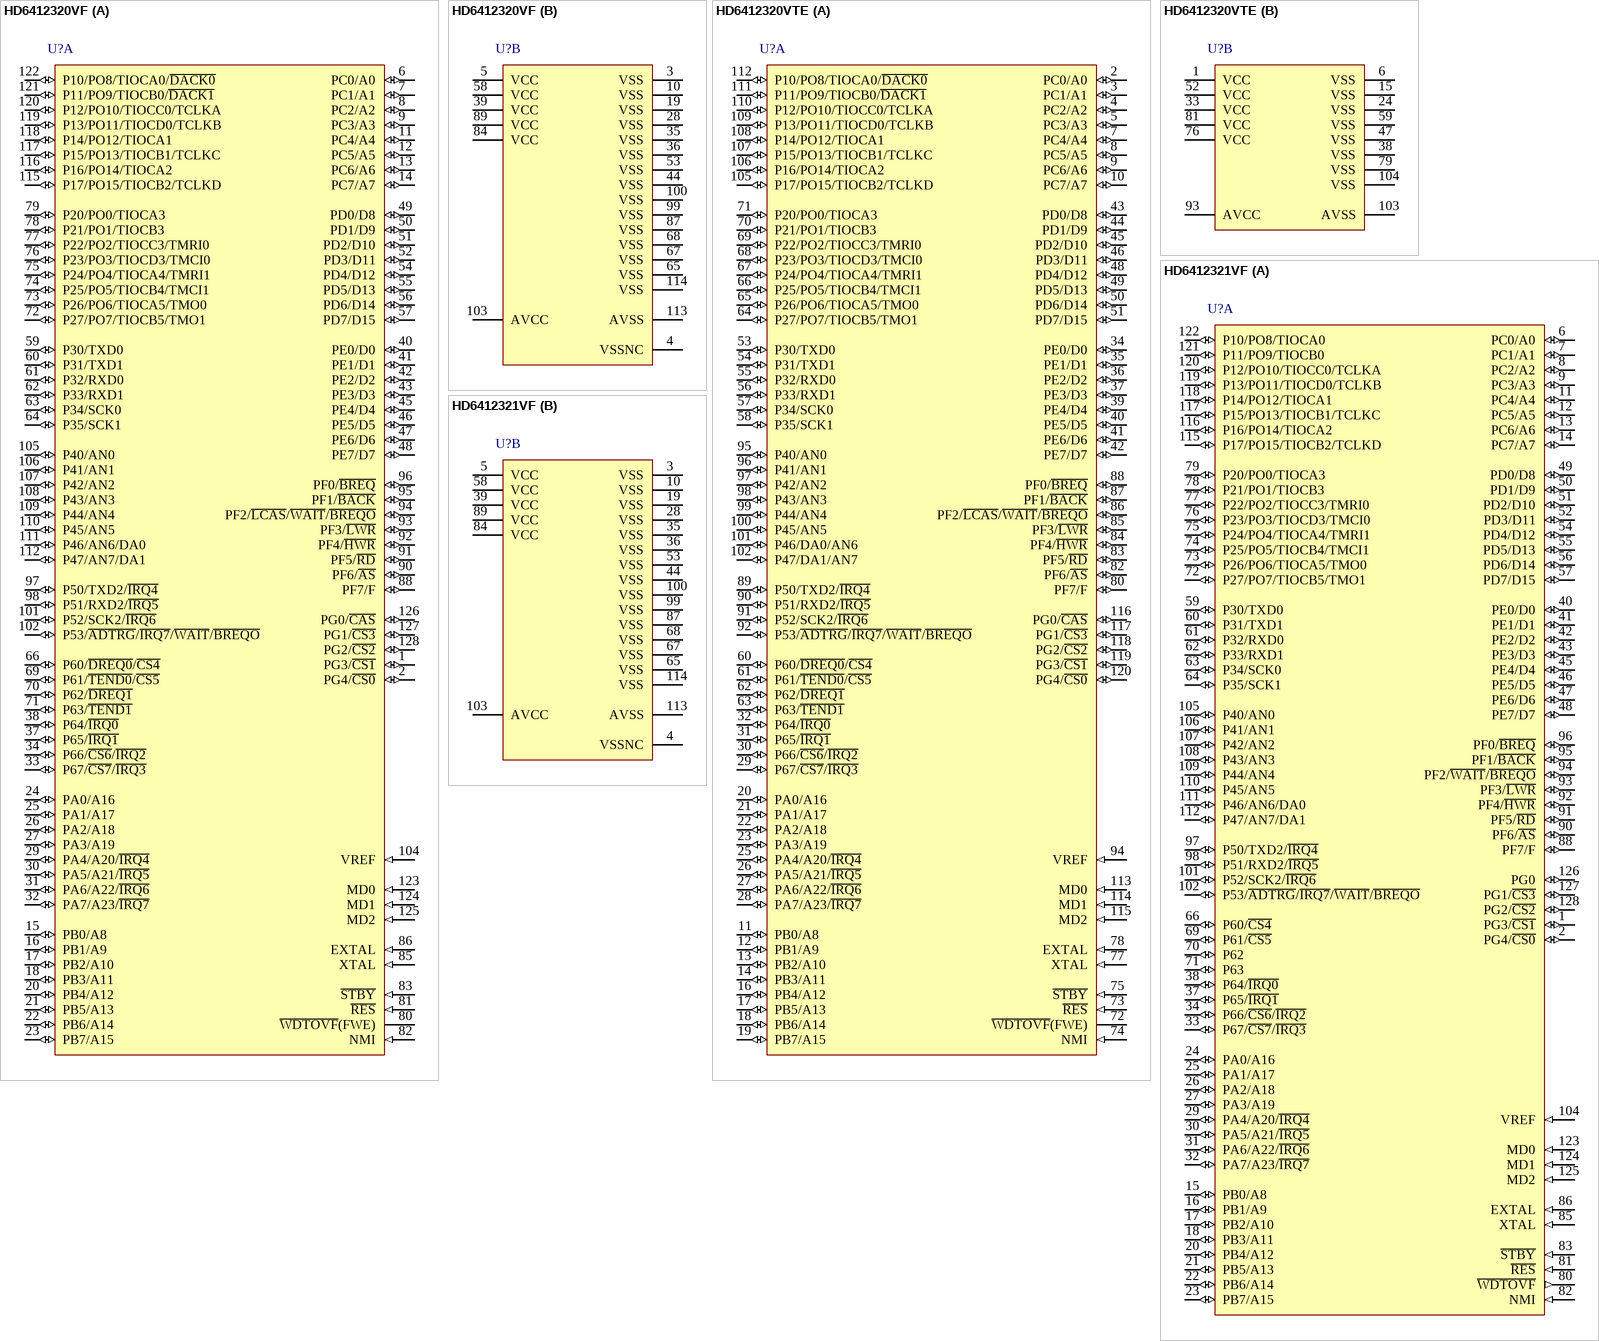
[diagram p89: symbols HD6412320VF to HD6412321VF]

## HD6412320VF
designator U?
ROMless H8S/2300 Series, 2329 Group MCU, 4K RAM, FP-128B Pkg; Published: 28-Aug-2009; DatasheetVersion: Rev.6.00, Sep-2007; PackageVersion: Sep-2005; PackageReference: PRQP0128KB-A; Publisher: Altium Limited; PackageDescription: 128-Pin Plastic Quad Flat Pack, 20 x 14 x 2.7 mm Body, 0.5 mm Pitch; Code_JEITA: P-QFP128-14x20-0.50; Code_IPC: SQFP50P1600X2200-128; ComponentLink1Description: Manufacturer Link; ComponentLink1URL: http://sg.renesas.com/fmwk.jsp?cnt=h8s_family_landing.jsp&fp=/products/mpumcu/h8s_family/; ComponentLink2Description: Datasheet; ComponentLink2URL: http://documentation.renesas.com/eng/products/mpumcu/rej09b0220_h8s2329.pdf; ComponentLink3Description: Packaging Specification; ComponentLink3URL: http://sg.renesas.com/media/products/common_info/package/pdf/ic/code/prqp0128kb_a.pdf
footprint PRQP0128KB-A_N (Shrink QFP, 128-Leads, Body 20x14 mm, Pitch 0.5mm, IPC Medium Density)
footprint PRQP0128KB-A_L (Shrink QFP, 128-Leads, Body 20x14 mm, Pitch 0.5mm, IPC High Density)
footprint PRQP0128KB-A_M (Shrink QFP, 128-Leads, Body 20x14 mm, Pitch 0.5mm, IPC Low Density)
part A pins: 1 PG3/~{CS1} (io), 2 PG4/~{CS0} (io), 6 PC0/A0 (io), 7 PC1/A1 (io), 8 PC2/A2 (io), 9 PC3/A3 (io), 11 PC4/A4 (io), 12 PC5/A5 (io), 13 PC6/A6 (io), 14 PC7/A7 (io), 15 PB0/A8 (io), 16 PB1/A9 (io), 17 PB2/A10 (io), 18 PB3/A11 (io), 20 PB4/A12 (io), 21 PB5/A13 (io), 22 PB6/A14 (io), 23 PB7/A15 (io), 24 PA0/A16 (io), 25 PA1/A17 (io), 26 PA2/A18 (io), 27 PA3/A19 (io), 29 PA4/A20/~{IRQ4} (io), 30 PA5/A21/~{IRQ5} (io), 31 PA6/A22/~{IRQ6} (io), 32 PA7/A23/~{IRQ7} (io), 33 P67/~{CS7}/~{IRQ3} (io), 34 P66/~{CS6}/~{IRQ2} (io), 37 P65/~{IRQ1} (io), 38 P64/~{IRQ0} (io), 40 PE0/D0 (io), 41 PE1/D1 (io), 42 PE2/D2 (io), 43 PE3/D3 (io), 45 PE4/D4 (io), 46 PE5/D5 (io), 47 PE6/D6 (io), 48 PE7/D7 (io), 49 PD0/D8 (io), 50 PD1/D9 (io), 51 PD2/D10 (io), 52 PD3/D11 (io), 54 PD4/D12 (io), 55 PD5/D13 (io), 56 PD6/D14 (io), 57 PD7/D15 (io), 59 P30/TXD0 (io), 60 P31/TXD1 (io), 61 P32/RXD0 (io), 62 P33/RXD1 (io), 63 P34/SCK0 (io), 64 P35/SCK1 (io), 66 P60/~{DREQ0}/~{CS4} (io), 69 P61/~{TEND0}/~{CS5} (io), 70 P62/~{DREQ1} (io), 71 P63/~{TEND1} (io), 72 P27/PO7/TIOCB5/TMO1 (io), 73 P26/PO6/TIOCA5/TMO0 (io), 74 P25/PO5/TIOCB4/TMCI1 (io), 75 P24/PO4/TIOCA4/TMRI1 (io), 76 P23/PO3/TIOCD3/TMCI0 (io), 77 P22/PO2/TIOCC3/TMRI0 (io), 78 P21/PO1/TIOCB3 (io), 79 P20/PO0/TIOCA3 (io), 80 ~{WDTOVF}(FWE), 81 ~{RES} (in), 82 NMI (in), 83 ~{STBY} (in), 85 XTAL (in), 86 EXTAL (in), 88 PF7/F (io), 90 PF6/~{AS} (io), 91 PF5/~{RD} (io), 92 PF4/~{HWR} (io), 93 PF3/~{LWR} (io), 94 PF2/~{LCAS}/~{WAIT}/~{BREQO} (io), 95 PF1/~{BACK} (io), 96 PF0/~{BREQ} (io), 97 P50/TXD2/~{IRQ4} (io), 98 P51/RXD2/~{IRQ5} (io), 101 P52/SCK2/~{IRQ6} (io), 102 P53/~{ADTRG}/~{IRQ7}/~{WAIT}/~{BREQO} (io), 104 VREF (in), 105 P40/AN0 (io), 106 P41/AN1 (io), 107 P42/AN2 (io), 108 P43/AN3 (io), 109 P44/AN4 (io), 110 P45/AN5 (io), 111 P46/AN6/DA0 (io), 112 P47/AN7/DA1 (io), 115 P17/PO15/TIOCB2/TCLKD (io), 116 P16/PO14/TIOCA2 (io), 117 P15/PO13/TIOCB1/TCLKC (io), 118 P14/PO12/TIOCA1 (io), 119 P13/PO11/TIOCD0/TCLKB (io), 120 P12/PO10/TIOCC0/TCLKA (io), 121 P11/PO9/TIOCB0/~{DACK1} (io), 122 P10/PO8/TIOCA0/~{DACK0} (io), 123 MD0 (in), 124 MD1 (in), 125 MD2 (in), 126 PG0/~{CAS} (io), 127 PG1/~{CS3} (io), 128 PG2/~{CS2} (io)
part B pins: 3 VSS (power), 4 VSSNC (power), 5 VCC (power), 10 VSS (power), 19 VSS (power), 28 VSS (power), 35 VSS (power), 36 VSS (power), 39 VCC (power), 44 VSS (power), 53 VSS (power), 58 VCC (power), 65 VSS (power), 67 VSS (power), 68 VSS (power), 84 VCC (power), 87 VSS (power), 89 VCC (power), 99 VSS (power), 100 VSS (power), 103 AVCC (power), 113 AVSS (power), 114 VSS (power)

## HD6412320VTE
designator U?
ROMless H8S/2300 Series, 2329 Group MCU, 4K RAM, TFP-120 Pkg; Published: 28-Aug-2009; DatasheetVersion: Rev.6.00, Sep-2007; PackageVersion: Sep-2005; PackageReference: PTQP0120LA-A; Publisher: Altium Limited; PackageDescription: 120-Pin Plastic Thin QFP, 14 x 14 x 1.0 mm Body, 0.4 mm Pitch; Code_JEITA: P-TQFP120-14x14-0.40; ComponentLink1Description: Manufacturer Link; ComponentLink1URL: http://sg.renesas.com/fmwk.jsp?cnt=h8s_family_landing.jsp&fp=/products/mpumcu/h8s_family/; ComponentLink2Description: Datasheet; ComponentLink2URL: http://documentation.renesas.com/eng/products/mpumcu/rej09b0220_h8s2329.pdf; ComponentLink3Description: Packaging Specification; ComponentLink3URL: http://sg.renesas.com/media/products/common_info/package/pdf/ic/code/ptqp0120la_a.pdf
footprint PTQP0120LA-A_N (Thin QFP, 120-Leads, Body 14x14mm, Pitch 0.4mm, IPC Medium Density)
footprint PTQP0120LA-A_L (Thin QFP, 120-Leads, Body 14x14mm, Pitch 0.4mm, IPC High Density)
footprint PTQP0120LA-A_M (Thin QFP, 120-Leads, Body 14x14mm, Pitch 0.4mm, IPC Low Density)
part A pins: 2 PC0/A0 (io), 3 PC1/A1 (io), 4 PC2/A2 (io), 5 PC3/A3 (io), 7 PC4/A4 (io), 8 PC5/A5 (io), 9 PC6/A6 (io), 10 PC7/A7 (io), 11 PB0/A8 (io), 12 PB1/A9 (io), 13 PB2/A10 (io), 14 PB3/A11 (io), 16 PB4/A12 (io), 17 PB5/A13 (io), 18 PB6/A14 (io), 19 PB7/A15 (io), 20 PA0/A16 (io), 21 PA1/A17 (io), 22 PA2/A18 (io), 23 PA3/A19 (io), 25 PA4/A20/~{IRQ4} (io), 26 PA5/A21/~{IRQ5} (io), 27 PA6/A22/~{IRQ6} (io), 28 PA7/A23/~{IRQ7} (io), 29 P67/~{CS7}/~{IRQ3} (io), 30 P66/~{CS6}/~{IRQ2} (io), 31 P65/~{IRQ1} (io), 32 P64/~{IRQ0} (io), 34 PE0/D0 (io), 35 PE1/D1 (io), 36 PE2/D2 (io), 37 PE3/D3 (io), 39 PE4/D4 (io), 40 PE5/D5 (io), 41 PE6/D6 (io), 42 PE7/D7 (io), 43 PD0/D8 (io), 44 PD1/D9 (io), 45 PD2/D10 (io), 46 PD3/D11 (io), 48 PD4/D12 (io), 49 PD5/D13 (io), 50 PD6/D14 (io), 51 PD7/D15 (io), 53 P30/TXD0 (io), 54 P31/TXD1 (io), 55 P32/RXD0 (io), 56 P33/RXD1 (io), 57 P34/SCK0 (io), 58 P35/SCK1 (io), 60 P60/~{DREQ0}/~{CS4} (io), 61 P61/~{TEND0}/~{CS5} (io), 62 P62/~{DREQ1} (io), 63 P63/~{TEND1} (io), 64 P27/PO7/TIOCB5/TMO1 (io), 65 P26/PO6/TIOCA5/TMO0 (io), 66 P25/PO5/TIOCB4/TMCI1 (io), 67 P24/PO4/TIOCA4/TMRI1 (io), 68 P23/PO3/TIOCD3/TMCI0 (io), 69 P22/PO2/TIOCC3/TMRI0 (io), 70 P21/PO1/TIOCB3 (io), 71 P20/PO0/TIOCA3 (io), 72 ~{WDTOVF}(FWE), 73 ~{RES} (in), 74 NMI (in), 75 ~{STBY} (in), 77 XTAL (in), 78 EXTAL (in), 80 PF7/F (io), 82 PF6/~{AS} (io), 83 PF5/~{RD} (io), 84 PF4/~{HWR} (io), 85 PF3/~{LWR} (io), 86 PF2/~{LCAS}/~{WAIT}/~{BREQO} (io), 87 PF1/~{BACK} (io), 88 PF0/~{BREQ} (io), 89 P50/TXD2/~{IRQ4} (io), 90 P51/RXD2/~{IRQ5} (io), 91 P52/SCK2/~{IRQ6} (io), 92 P53/~{ADTRG}/~{IRQ7}/~{WAIT}/~{BREQO} (io), 94 VREF (in), 95 P40/AN0 (io), 96 P41/AN1 (io), 97 P42/AN2 (io), 98 P43/AN3 (io), 99 P44/AN4 (io), 100 P45/AN5 (io), 101 P46/DA0/AN6 (io), 102 P47/DA1/AN7 (io), 105 P17/PO15/TIOCB2/TCLKD (io), 106 P16/PO14/TIOCA2 (io), 107 P15/PO13/TIOCB1/TCLKC (io), 108 P14/PO12/TIOCA1 (io), 109 P13/PO11/TIOCD0/TCLKB (io), 110 P12/PO10/TIOCC0/TCLKA (io), 111 P11/PO9/TIOCB0/~{DACK1} (io), 112 P10/PO8/TIOCA0/~{DACK0} (io), 113 MD0 (in), 114 MD1 (in), 115 MD2 (in), 116 PG0/~{CAS} (io), 117 PG1/~{CS3} (io), 118 PG2/~{CS2} (io), 119 PG3/~{CS1} (io), 120 PG4/~{CS0} (io)
part B pins: 1 VCC (power), 6 VSS (power), 15 VSS (power), 24 VSS (power), 33 VCC (power), 38 VSS (power), 47 VSS (power), 52 VCC (power), 59 VSS (power), 76 VCC (power), 79 VSS (power), 81 VCC (power), 93 AVCC (power), 103 AVSS (power), 104 VSS (power)

## HD6412321VF
designator U?
ROMless H8S/2300 Series, 2329 Group MCU, 4K RAM, FP-128B Pkg; Published: 28-Aug-2009; DatasheetVersion: Rev.6.00, Sep-2007; PackageVersion: Sep-2005; PackageReference: PRQP0128KB-A; Publisher: Altium Limited; PackageDescription: 128-Pin Plastic Quad Flat Pack, 20 x 14 x 2.7 mm Body, 0.5 mm Pitch; Code_JEITA: P-QFP128-14x20-0.50; Code_IPC: SQFP50P1600X2200-128; ComponentLink1Description: Manufacturer Link; ComponentLink1URL: http://sg.renesas.com/fmwk.jsp?cnt=h8s_family_landing.jsp&fp=/products/mpumcu/h8s_family/; ComponentLink2Description: Datasheet; ComponentLink2URL: http://documentation.renesas.com/eng/products/mpumcu/rej09b0220_h8s2329.pdf; ComponentLink3Description: Packaging Specification; ComponentLink3URL: http://sg.renesas.com/media/products/common_info/package/pdf/ic/code/prqp0128kb_a.pdf
footprint PRQP0128KB-A_N (Shrink QFP, 128-Leads, Body 20x14 mm, Pitch 0.5mm, IPC Medium Density)
footprint PRQP0128KB-A_L (Shrink QFP, 128-Leads, Body 20x14 mm, Pitch 0.5mm, IPC High Density)
footprint PRQP0128KB-A_M (Shrink QFP, 128-Leads, Body 20x14 mm, Pitch 0.5mm, IPC Low Density)
part A pins: 1 PG3/~{CS1} (io), 2 PG4/~{CS0} (io), 6 PC0/A0 (io), 7 PC1/A1 (io), 8 PC2/A2 (io), 9 PC3/A3 (io), 11 PC4/A4 (io), 12 PC5/A5 (io), 13 PC6/A6 (io), 14 PC7/A7 (io), 15 PB0/A8 (io), 16 PB1/A9 (io), 17 PB2/A10 (io), 18 PB3/A11 (io), 20 PB4/A12 (io), 21 PB5/A13 (io), 22 PB6/A14 (io), 23 PB7/A15 (io), 24 PA0/A16 (io), 25 PA1/A17 (io), 26 PA2/A18 (io), 27 PA3/A19 (io), 29 PA4/A20/~{IRQ4} (io), 30 PA5/A21/~{IRQ5} (io), 31 PA6/A22/~{IRQ6} (io), 32 PA7/A23/~{IRQ7} (io), 33 P67/~{CS7}/~{IRQ3} (io), 34 P66/~{CS6}/~{IRQ2} (io), 37 P65/~{IRQ1} (io), 38 P64/~{IRQ0} (io), 40 PE0/D0 (io), 41 PE1/D1 (io), 42 PE2/D2 (io), 43 PE3/D3 (io), 45 PE4/D4 (io), 46 PE5/D5 (io), 47 PE6/D6 (io), 48 PE7/D7 (io), 49 PD0/D8 (io), 50 PD1/D9 (io), 51 PD2/D10 (io), 52 PD3/D11 (io), 54 PD4/D12 (io), 55 PD5/D13 (io), 56 PD6/D14 (io), 57 PD7/D15 (io), 59 P30/TXD0 (io), 60 P31/TXD1 (io), 61 P32/RXD0 (io), 62 P33/RXD1 (io), 63 P34/SCK0 (io), 64 P35/SCK1 (io), 66 P60/~{CS4} (io), 69 P61/~{CS5} (io), 70 P62 (io), 71 P63 (io), 72 P27/PO7/TIOCB5/TMO1 (io), 73 P26/PO6/TIOCA5/TMO0 (io), 74 P25/PO5/TIOCB4/TMCI1 (io), 75 P24/PO4/TIOCA4/TMRI1 (io), 76 P23/PO3/TIOCD3/TMCI0 (io), 77 P22/PO2/TIOCC3/TMRI0 (io), 78 P21/PO1/TIOCB3 (io), 79 P20/PO0/TIOCA3 (io), 80 ~{WDTOVF} (out), 81 ~{RES} (in), 82 NMI (in), 83 ~{STBY} (in), 85 XTAL (in), 86 EXTAL (in), 88 PF7/F (io), 90 PF6/~{AS} (io), 91 PF5/~{RD} (io), 92 PF4/~{HWR} (io), 93 PF3/~{LWR} (io), 94 PF2/~{WAIT}/~{BREQO} (io), 95 PF1/~{BACK} (io), 96 PF0/~{BREQ} (io), 97 P50/TXD2/~{IRQ4} (io), 98 P51/RXD2/~{IRQ5} (io), 101 P52/SCK2/~{IRQ6} (io), 102 P53/~{ADTRG}/~{IRQ7}/~{WAIT}/~{BREQO} (io), 104 VREF (in), 105 P40/AN0 (io), 106 P41/AN1 (io), 107 P42/AN2 (io), 108 P43/AN3 (io), 109 P44/AN4 (io), 110 P45/AN5 (io), 111 P46/AN6/DA0 (io), 112 P47/AN7/DA1 (io), 115 P17/PO15/TIOCB2/TCLKD (io), 116 P16/PO14/TIOCA2 (io), 117 P15/PO13/TIOCB1/TCLKC (io), 118 P14/PO12/TIOCA1 (io), 119 P13/PO11/TIOCD0/TCLKB (io), 120 P12/PO10/TIOCC0/TCLKA (io), 121 P11/PO9/TIOCB0 (io), 122 P10/PO8/TIOCA0 (io), 123 MD0 (in), 124 MD1 (in), 125 MD2 (in), 126 PG0 (io), 127 PG1/~{CS3} (io), 128 PG2/~{CS2} (io)
part B pins: 3 VSS (power), 4 VSSNC (power), 5 VCC (power), 10 VSS (power), 19 VSS (power), 28 VSS (power), 35 VSS (power), 36 VSS (power), 39 VCC (power), 44 VSS (power), 53 VSS (power), 58 VCC (power), 65 VSS (power), 67 VSS (power), 68 VSS (power), 84 VCC (power), 87 VSS (power), 89 VCC (power), 99 VSS (power), 100 VSS (power), 103 AVCC (power), 113 AVSS (power), 114 VSS (power)

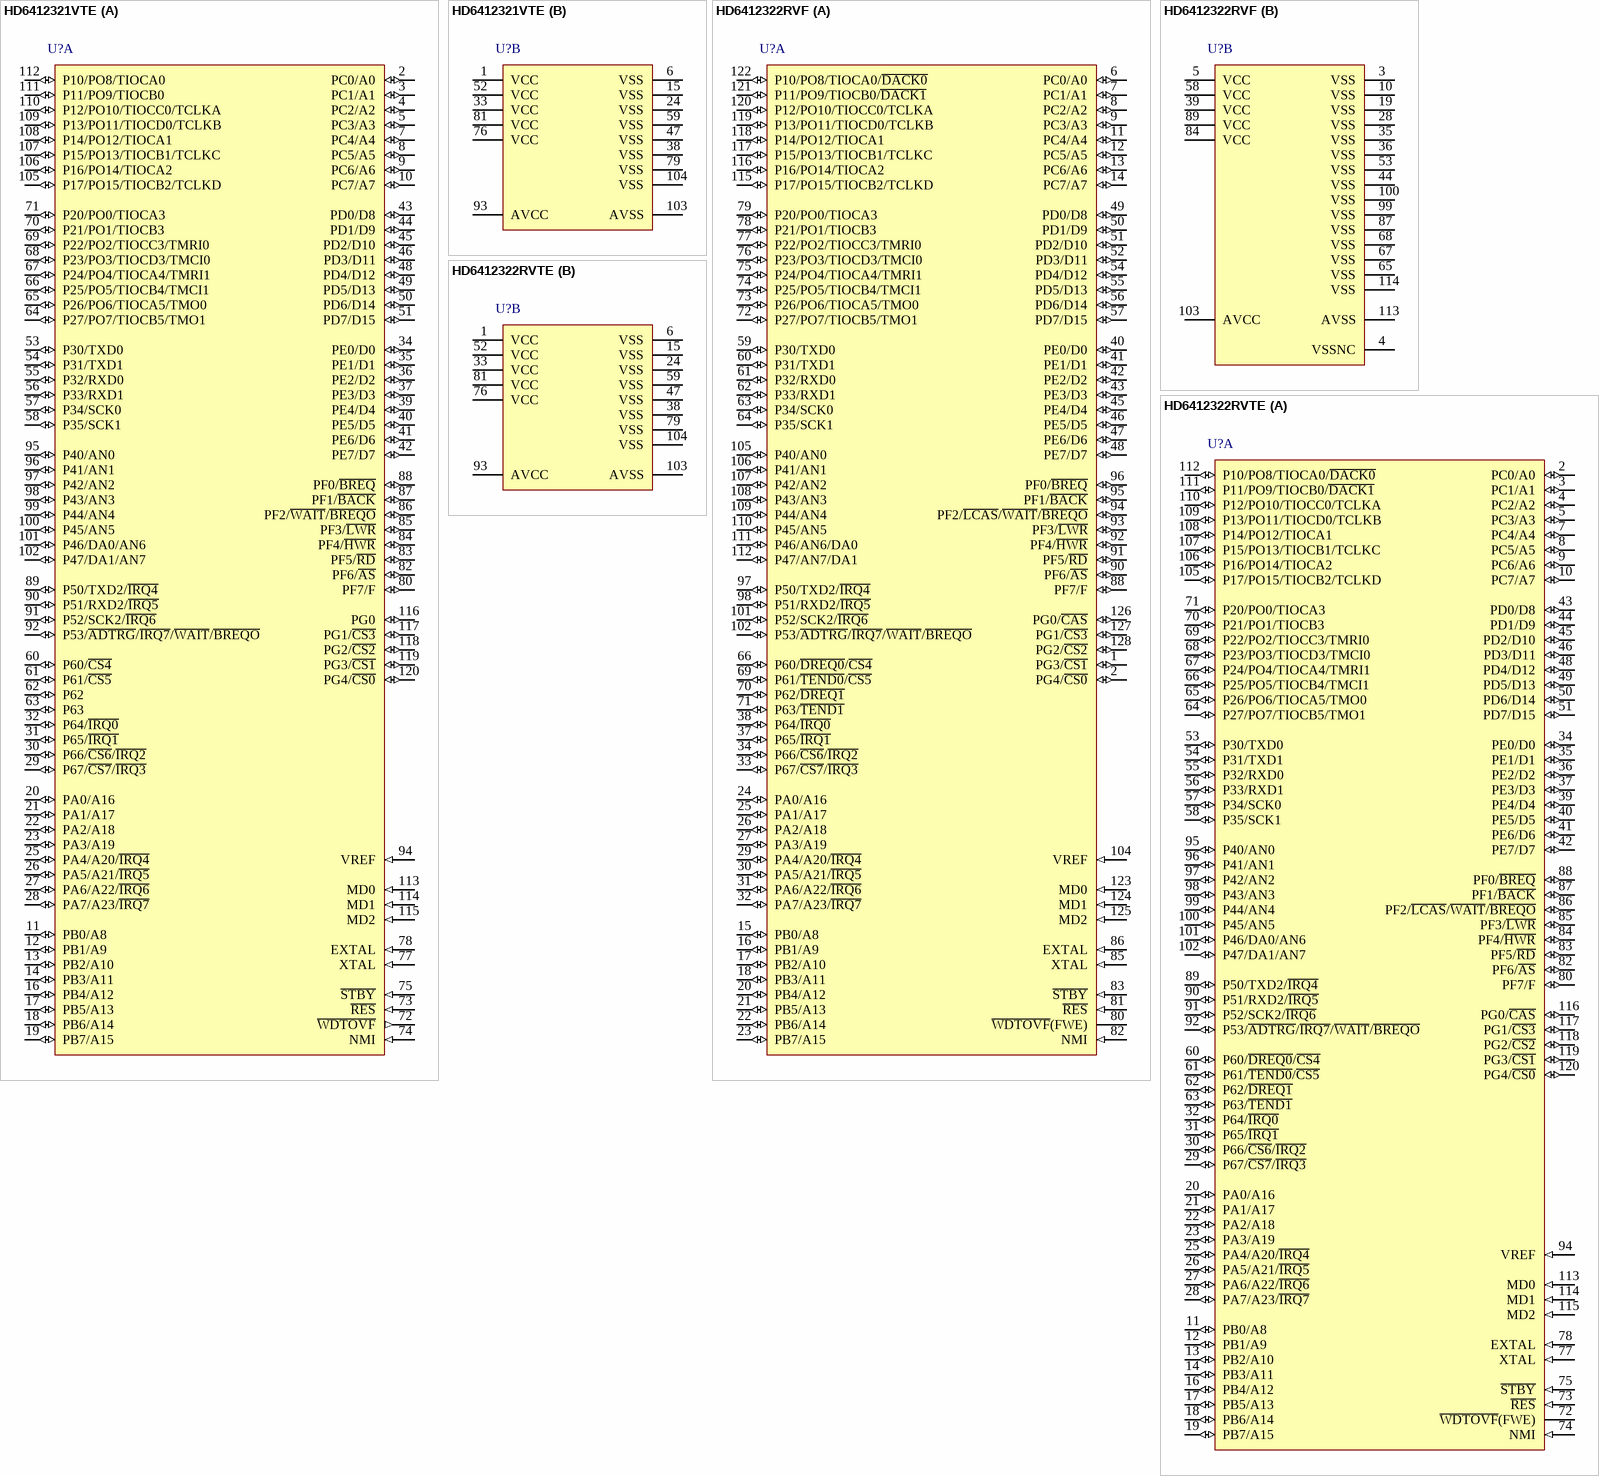
[diagram p90: symbols HD6412321VTE to HD6412322RVTE]

## HD6412321VTE
designator U?
ROMless H8S/2300 Series, 2329 Group MCU, 4K RAM, TFP-120 Pkg; Published: 28-Aug-2009; DatasheetVersion: Rev.6.00, Sep-2007; PackageVersion: Sep-2005; PackageReference: PTQP0120LA-A; Publisher: Altium Limited; PackageDescription: 120-Pin Plastic Thin QFP, 14 x 14 x 1.0 mm Body, 0.4 mm Pitch; Code_JEITA: P-TQFP120-14x14-0.40; ComponentLink1Description: Manufacturer Link; ComponentLink1URL: http://sg.renesas.com/fmwk.jsp?cnt=h8s_family_landing.jsp&fp=/products/mpumcu/h8s_family/; ComponentLink2Description: Datasheet; ComponentLink2URL: http://documentation.renesas.com/eng/products/mpumcu/rej09b0220_h8s2329.pdf; ComponentLink3Description: Packaging Specification; ComponentLink3URL: http://sg.renesas.com/media/products/common_info/package/pdf/ic/code/ptqp0120la_a.pdf
footprint PTQP0120LA-A_N (Thin QFP, 120-Leads, Body 14x14mm, Pitch 0.4mm, IPC Medium Density)
footprint PTQP0120LA-A_L (Thin QFP, 120-Leads, Body 14x14mm, Pitch 0.4mm, IPC High Density)
footprint PTQP0120LA-A_M (Thin QFP, 120-Leads, Body 14x14mm, Pitch 0.4mm, IPC Low Density)
part A pins: 2 PC0/A0 (io), 3 PC1/A1 (io), 4 PC2/A2 (io), 5 PC3/A3 (io), 7 PC4/A4 (io), 8 PC5/A5 (io), 9 PC6/A6 (io), 10 PC7/A7 (io), 11 PB0/A8 (io), 12 PB1/A9 (io), 13 PB2/A10 (io), 14 PB3/A11 (io), 16 PB4/A12 (io), 17 PB5/A13 (io), 18 PB6/A14 (io), 19 PB7/A15 (io), 20 PA0/A16 (io), 21 PA1/A17 (io), 22 PA2/A18 (io), 23 PA3/A19 (io), 25 PA4/A20/~{IRQ4} (io), 26 PA5/A21/~{IRQ5} (io), 27 PA6/A22/~{IRQ6} (io), 28 PA7/A23/~{IRQ7} (io), 29 P67/~{CS7}/~{IRQ3} (io), 30 P66/~{CS6}/~{IRQ2} (io), 31 P65/~{IRQ1} (io), 32 P64/~{IRQ0} (io), 34 PE0/D0 (io), 35 PE1/D1 (io), 36 PE2/D2 (io), 37 PE3/D3 (io), 39 PE4/D4 (io), 40 PE5/D5 (io), 41 PE6/D6 (io), 42 PE7/D7 (io), 43 PD0/D8 (io), 44 PD1/D9 (io), 45 PD2/D10 (io), 46 PD3/D11 (io), 48 PD4/D12 (io), 49 PD5/D13 (io), 50 PD6/D14 (io), 51 PD7/D15 (io), 53 P30/TXD0 (io), 54 P31/TXD1 (io), 55 P32/RXD0 (io), 56 P33/RXD1 (io), 57 P34/SCK0 (io), 58 P35/SCK1 (io), 60 P60/~{CS4} (io), 61 P61/~{CS5} (io), 62 P62 (io), 63 P63 (io), 64 P27/PO7/TIOCB5/TMO1 (io), 65 P26/PO6/TIOCA5/TMO0 (io), 66 P25/PO5/TIOCB4/TMCI1 (io), 67 P24/PO4/TIOCA4/TMRI1 (io), 68 P23/PO3/TIOCD3/TMCI0 (io), 69 P22/PO2/TIOCC3/TMRI0 (io), 70 P21/PO1/TIOCB3 (io), 71 P20/PO0/TIOCA3 (io), 72 ~{WDTOVF} (out), 73 ~{RES} (in), 74 NMI (in), 75 ~{STBY} (in), 77 XTAL (in), 78 EXTAL (in), 80 PF7/F (io), 82 PF6/~{AS} (io), 83 PF5/~{RD} (io), 84 PF4/~{HWR} (io), 85 PF3/~{LWR} (io), 86 PF2/~{WAIT}/~{BREQO} (io), 87 PF1/~{BACK} (io), 88 PF0/~{BREQ} (io), 89 P50/TXD2/~{IRQ4} (io), 90 P51/RXD2/~{IRQ5} (io), 91 P52/SCK2/~{IRQ6} (io), 92 P53/~{ADTRG}/~{IRQ7}/~{WAIT}/~{BREQO} (io), 94 VREF (in), 95 P40/AN0 (io), 96 P41/AN1 (io), 97 P42/AN2 (io), 98 P43/AN3 (io), 99 P44/AN4 (io), 100 P45/AN5 (io), 101 P46/DA0/AN6 (io), 102 P47/DA1/AN7 (io), 105 P17/PO15/TIOCB2/TCLKD (io), 106 P16/PO14/TIOCA2 (io), 107 P15/PO13/TIOCB1/TCLKC (io), 108 P14/PO12/TIOCA1 (io), 109 P13/PO11/TIOCD0/TCLKB (io), 110 P12/PO10/TIOCC0/TCLKA (io), 111 P11/PO9/TIOCB0 (io), 112 P10/PO8/TIOCA0 (io), 113 MD0 (in), 114 MD1 (in), 115 MD2 (in), 116 PG0 (io), 117 PG1/~{CS3} (io), 118 PG2/~{CS2} (io), 119 PG3/~{CS1} (io), 120 PG4/~{CS0} (io)
part B pins: 1 VCC (power), 6 VSS (power), 15 VSS (power), 24 VSS (power), 33 VCC (power), 38 VSS (power), 47 VSS (power), 52 VCC (power), 59 VSS (power), 76 VCC (power), 79 VSS (power), 81 VCC (power), 93 AVCC (power), 103 AVSS (power), 104 VSS (power)

## HD6412322RVF
designator U?
ROMless H8S/2300 Series, 2329 Group MCU, 8K RAM, FP-128B Pkg; Published: 28-Aug-2009; DatasheetVersion: Rev.6.00, Sep-2007; PackageVersion: Sep-2005; PackageReference: PRQP0128KB-A; Publisher: Altium Limited; PackageDescription: 128-Pin Plastic Quad Flat Pack, 20 x 14 x 2.7 mm Body, 0.5 mm Pitch; Code_JEITA: P-QFP128-14x20-0.50; Code_IPC: SQFP50P1600X2200-128; ComponentLink1Description: Manufacturer Link; ComponentLink1URL: http://sg.renesas.com/fmwk.jsp?cnt=h8s_family_landing.jsp&fp=/products/mpumcu/h8s_family/; ComponentLink2Description: Datasheet; ComponentLink2URL: http://documentation.renesas.com/eng/products/mpumcu/rej09b0220_h8s2329.pdf; ComponentLink3Description: Packaging Specification; ComponentLink3URL: http://sg.renesas.com/media/products/common_info/package/pdf/ic/code/prqp0128kb_a.pdf
footprint PRQP0128KB-A_N (Shrink QFP, 128-Leads, Body 20x14 mm, Pitch 0.5mm, IPC Medium Density)
footprint PRQP0128KB-A_L (Shrink QFP, 128-Leads, Body 20x14 mm, Pitch 0.5mm, IPC High Density)
footprint PRQP0128KB-A_M (Shrink QFP, 128-Leads, Body 20x14 mm, Pitch 0.5mm, IPC Low Density)
part A pins: 1 PG3/~{CS1} (io), 2 PG4/~{CS0} (io), 6 PC0/A0 (io), 7 PC1/A1 (io), 8 PC2/A2 (io), 9 PC3/A3 (io), 11 PC4/A4 (io), 12 PC5/A5 (io), 13 PC6/A6 (io), 14 PC7/A7 (io), 15 PB0/A8 (io), 16 PB1/A9 (io), 17 PB2/A10 (io), 18 PB3/A11 (io), 20 PB4/A12 (io), 21 PB5/A13 (io), 22 PB6/A14 (io), 23 PB7/A15 (io), 24 PA0/A16 (io), 25 PA1/A17 (io), 26 PA2/A18 (io), 27 PA3/A19 (io), 29 PA4/A20/~{IRQ4} (io), 30 PA5/A21/~{IRQ5} (io), 31 PA6/A22/~{IRQ6} (io), 32 PA7/A23/~{IRQ7} (io), 33 P67/~{CS7}/~{IRQ3} (io), 34 P66/~{CS6}/~{IRQ2} (io), 37 P65/~{IRQ1} (io), 38 P64/~{IRQ0} (io), 40 PE0/D0 (io), 41 PE1/D1 (io), 42 PE2/D2 (io), 43 PE3/D3 (io), 45 PE4/D4 (io), 46 PE5/D5 (io), 47 PE6/D6 (io), 48 PE7/D7 (io), 49 PD0/D8 (io), 50 PD1/D9 (io), 51 PD2/D10 (io), 52 PD3/D11 (io), 54 PD4/D12 (io), 55 PD5/D13 (io), 56 PD6/D14 (io), 57 PD7/D15 (io), 59 P30/TXD0 (io), 60 P31/TXD1 (io), 61 P32/RXD0 (io), 62 P33/RXD1 (io), 63 P34/SCK0 (io), 64 P35/SCK1 (io), 66 P60/~{DREQ0}/~{CS4} (io), 69 P61/~{TEND0}/~{CS5} (io), 70 P62/~{DREQ1} (io), 71 P63/~{TEND1} (io), 72 P27/PO7/TIOCB5/TMO1 (io), 73 P26/PO6/TIOCA5/TMO0 (io), 74 P25/PO5/TIOCB4/TMCI1 (io), 75 P24/PO4/TIOCA4/TMRI1 (io), 76 P23/PO3/TIOCD3/TMCI0 (io), 77 P22/PO2/TIOCC3/TMRI0 (io), 78 P21/PO1/TIOCB3 (io), 79 P20/PO0/TIOCA3 (io), 80 ~{WDTOVF}(FWE), 81 ~{RES} (in), 82 NMI (in), 83 ~{STBY} (in), 85 XTAL (in), 86 EXTAL (in), 88 PF7/F (io), 90 PF6/~{AS} (io), 91 PF5/~{RD} (io), 92 PF4/~{HWR} (io), 93 PF3/~{LWR} (io), 94 PF2/~{LCAS}/~{WAIT}/~{BREQO} (io), 95 PF1/~{BACK} (io), 96 PF0/~{BREQ} (io), 97 P50/TXD2/~{IRQ4} (io), 98 P51/RXD2/~{IRQ5} (io), 101 P52/SCK2/~{IRQ6} (io), 102 P53/~{ADTRG}/~{IRQ7}/~{WAIT}/~{BREQO} (io), 104 VREF (in), 105 P40/AN0 (io), 106 P41/AN1 (io), 107 P42/AN2 (io), 108 P43/AN3 (io), 109 P44/AN4 (io), 110 P45/AN5 (io), 111 P46/AN6/DA0 (io), 112 P47/AN7/DA1 (io), 115 P17/PO15/TIOCB2/TCLKD (io), 116 P16/PO14/TIOCA2 (io), 117 P15/PO13/TIOCB1/TCLKC (io), 118 P14/PO12/TIOCA1 (io), 119 P13/PO11/TIOCD0/TCLKB (io), 120 P12/PO10/TIOCC0/TCLKA (io), 121 P11/PO9/TIOCB0/~{DACK1} (io), 122 P10/PO8/TIOCA0/~{DACK0} (io), 123 MD0 (in), 124 MD1 (in), 125 MD2 (in), 126 PG0/~{CAS} (io), 127 PG1/~{CS3} (io), 128 PG2/~{CS2} (io)
part B pins: 3 VSS (power), 4 VSSNC (power), 5 VCC (power), 10 VSS (power), 19 VSS (power), 28 VSS (power), 35 VSS (power), 36 VSS (power), 39 VCC (power), 44 VSS (power), 53 VSS (power), 58 VCC (power), 65 VSS (power), 67 VSS (power), 68 VSS (power), 84 VCC (power), 87 VSS (power), 89 VCC (power), 99 VSS (power), 100 VSS (power), 103 AVCC (power), 113 AVSS (power), 114 VSS (power)

## HD6412322RVTE
designator U?
ROMless H8S/2300 Series, 2329 Group MCU, 8K RAM, TFP-120 Pkg; Published: 28-Aug-2009; DatasheetVersion: Rev.6.00, Sep-2007; PackageVersion: Sep-2005; PackageReference: PTQP0120LA-A; Publisher: Altium Limited; PackageDescription: 120-Pin Plastic Thin QFP, 14 x 14 x 1.0 mm Body, 0.4 mm Pitch; Code_JEITA: P-TQFP120-14x14-0.40; ComponentLink1Description: Manufacturer Link; ComponentLink1URL: http://sg.renesas.com/fmwk.jsp?cnt=h8s_family_landing.jsp&fp=/products/mpumcu/h8s_family/; ComponentLink2Description: Datasheet; ComponentLink2URL: http://documentation.renesas.com/eng/products/mpumcu/rej09b0220_h8s2329.pdf; ComponentLink3Description: Packaging Specification; ComponentLink3URL: http://sg.renesas.com/media/products/common_info/package/pdf/ic/code/ptqp0120la_a.pdf
footprint PTQP0120LA-A_N (Thin QFP, 120-Leads, Body 14x14mm, Pitch 0.4mm, IPC Medium Density)
footprint PTQP0120LA-A_L (Thin QFP, 120-Leads, Body 14x14mm, Pitch 0.4mm, IPC High Density)
footprint PTQP0120LA-A_M (Thin QFP, 120-Leads, Body 14x14mm, Pitch 0.4mm, IPC Low Density)
part A pins: 2 PC0/A0 (io), 3 PC1/A1 (io), 4 PC2/A2 (io), 5 PC3/A3 (io), 7 PC4/A4 (io), 8 PC5/A5 (io), 9 PC6/A6 (io), 10 PC7/A7 (io), 11 PB0/A8 (io), 12 PB1/A9 (io), 13 PB2/A10 (io), 14 PB3/A11 (io), 16 PB4/A12 (io), 17 PB5/A13 (io), 18 PB6/A14 (io), 19 PB7/A15 (io), 20 PA0/A16 (io), 21 PA1/A17 (io), 22 PA2/A18 (io), 23 PA3/A19 (io), 25 PA4/A20/~{IRQ4} (io), 26 PA5/A21/~{IRQ5} (io), 27 PA6/A22/~{IRQ6} (io), 28 PA7/A23/~{IRQ7} (io), 29 P67/~{CS7}/~{IRQ3} (io), 30 P66/~{CS6}/~{IRQ2} (io), 31 P65/~{IRQ1} (io), 32 P64/~{IRQ0} (io), 34 PE0/D0 (io), 35 PE1/D1 (io), 36 PE2/D2 (io), 37 PE3/D3 (io), 39 PE4/D4 (io), 40 PE5/D5 (io), 41 PE6/D6 (io), 42 PE7/D7 (io), 43 PD0/D8 (io), 44 PD1/D9 (io), 45 PD2/D10 (io), 46 PD3/D11 (io), 48 PD4/D12 (io), 49 PD5/D13 (io), 50 PD6/D14 (io), 51 PD7/D15 (io), 53 P30/TXD0 (io), 54 P31/TXD1 (io), 55 P32/RXD0 (io), 56 P33/RXD1 (io), 57 P34/SCK0 (io), 58 P35/SCK1 (io), 60 P60/~{DREQ0}/~{CS4} (io), 61 P61/~{TEND0}/~{CS5} (io), 62 P62/~{DREQ1} (io), 63 P63/~{TEND1} (io), 64 P27/PO7/TIOCB5/TMO1 (io), 65 P26/PO6/TIOCA5/TMO0 (io), 66 P25/PO5/TIOCB4/TMCI1 (io), 67 P24/PO4/TIOCA4/TMRI1 (io), 68 P23/PO3/TIOCD3/TMCI0 (io), 69 P22/PO2/TIOCC3/TMRI0 (io), 70 P21/PO1/TIOCB3 (io), 71 P20/PO0/TIOCA3 (io), 72 ~{WDTOVF}(FWE), 73 ~{RES} (in), 74 NMI (in), 75 ~{STBY} (in), 77 XTAL (in), 78 EXTAL (in), 80 PF7/F (io), 82 PF6/~{AS} (io), 83 PF5/~{RD} (io), 84 PF4/~{HWR} (io), 85 PF3/~{LWR} (io), 86 PF2/~{LCAS}/~{WAIT}/~{BREQO} (io), 87 PF1/~{BACK} (io), 88 PF0/~{BREQ} (io), 89 P50/TXD2/~{IRQ4} (io), 90 P51/RXD2/~{IRQ5} (io), 91 P52/SCK2/~{IRQ6} (io), 92 P53/~{ADTRG}/~{IRQ7}/~{WAIT}/~{BREQO} (io), 94 VREF (in), 95 P40/AN0 (io), 96 P41/AN1 (io), 97 P42/AN2 (io), 98 P43/AN3 (io), 99 P44/AN4 (io), 100 P45/AN5 (io), 101 P46/DA0/AN6 (io), 102 P47/DA1/AN7 (io), 105 P17/PO15/TIOCB2/TCLKD (io), 106 P16/PO14/TIOCA2 (io), 107 P15/PO13/TIOCB1/TCLKC (io), 108 P14/PO12/TIOCA1 (io), 109 P13/PO11/TIOCD0/TCLKB (io), 110 P12/PO10/TIOCC0/TCLKA (io), 111 P11/PO9/TIOCB0/~{DACK1} (io), 112 P10/PO8/TIOCA0/~{DACK0} (io), 113 MD0 (in), 114 MD1 (in), 115 MD2 (in), 116 PG0/~{CAS} (io), 117 PG1/~{CS3} (io), 118 PG2/~{CS2} (io), 119 PG3/~{CS1} (io), 120 PG4/~{CS0} (io)
part B pins: 1 VCC (power), 6 VSS (power), 15 VSS (power), 24 VSS (power), 33 VCC (power), 38 VSS (power), 47 VSS (power), 52 VCC (power), 59 VSS (power), 76 VCC (power), 79 VSS (power), 81 VCC (power), 93 AVCC (power), 103 AVSS (power), 104 VSS (power)

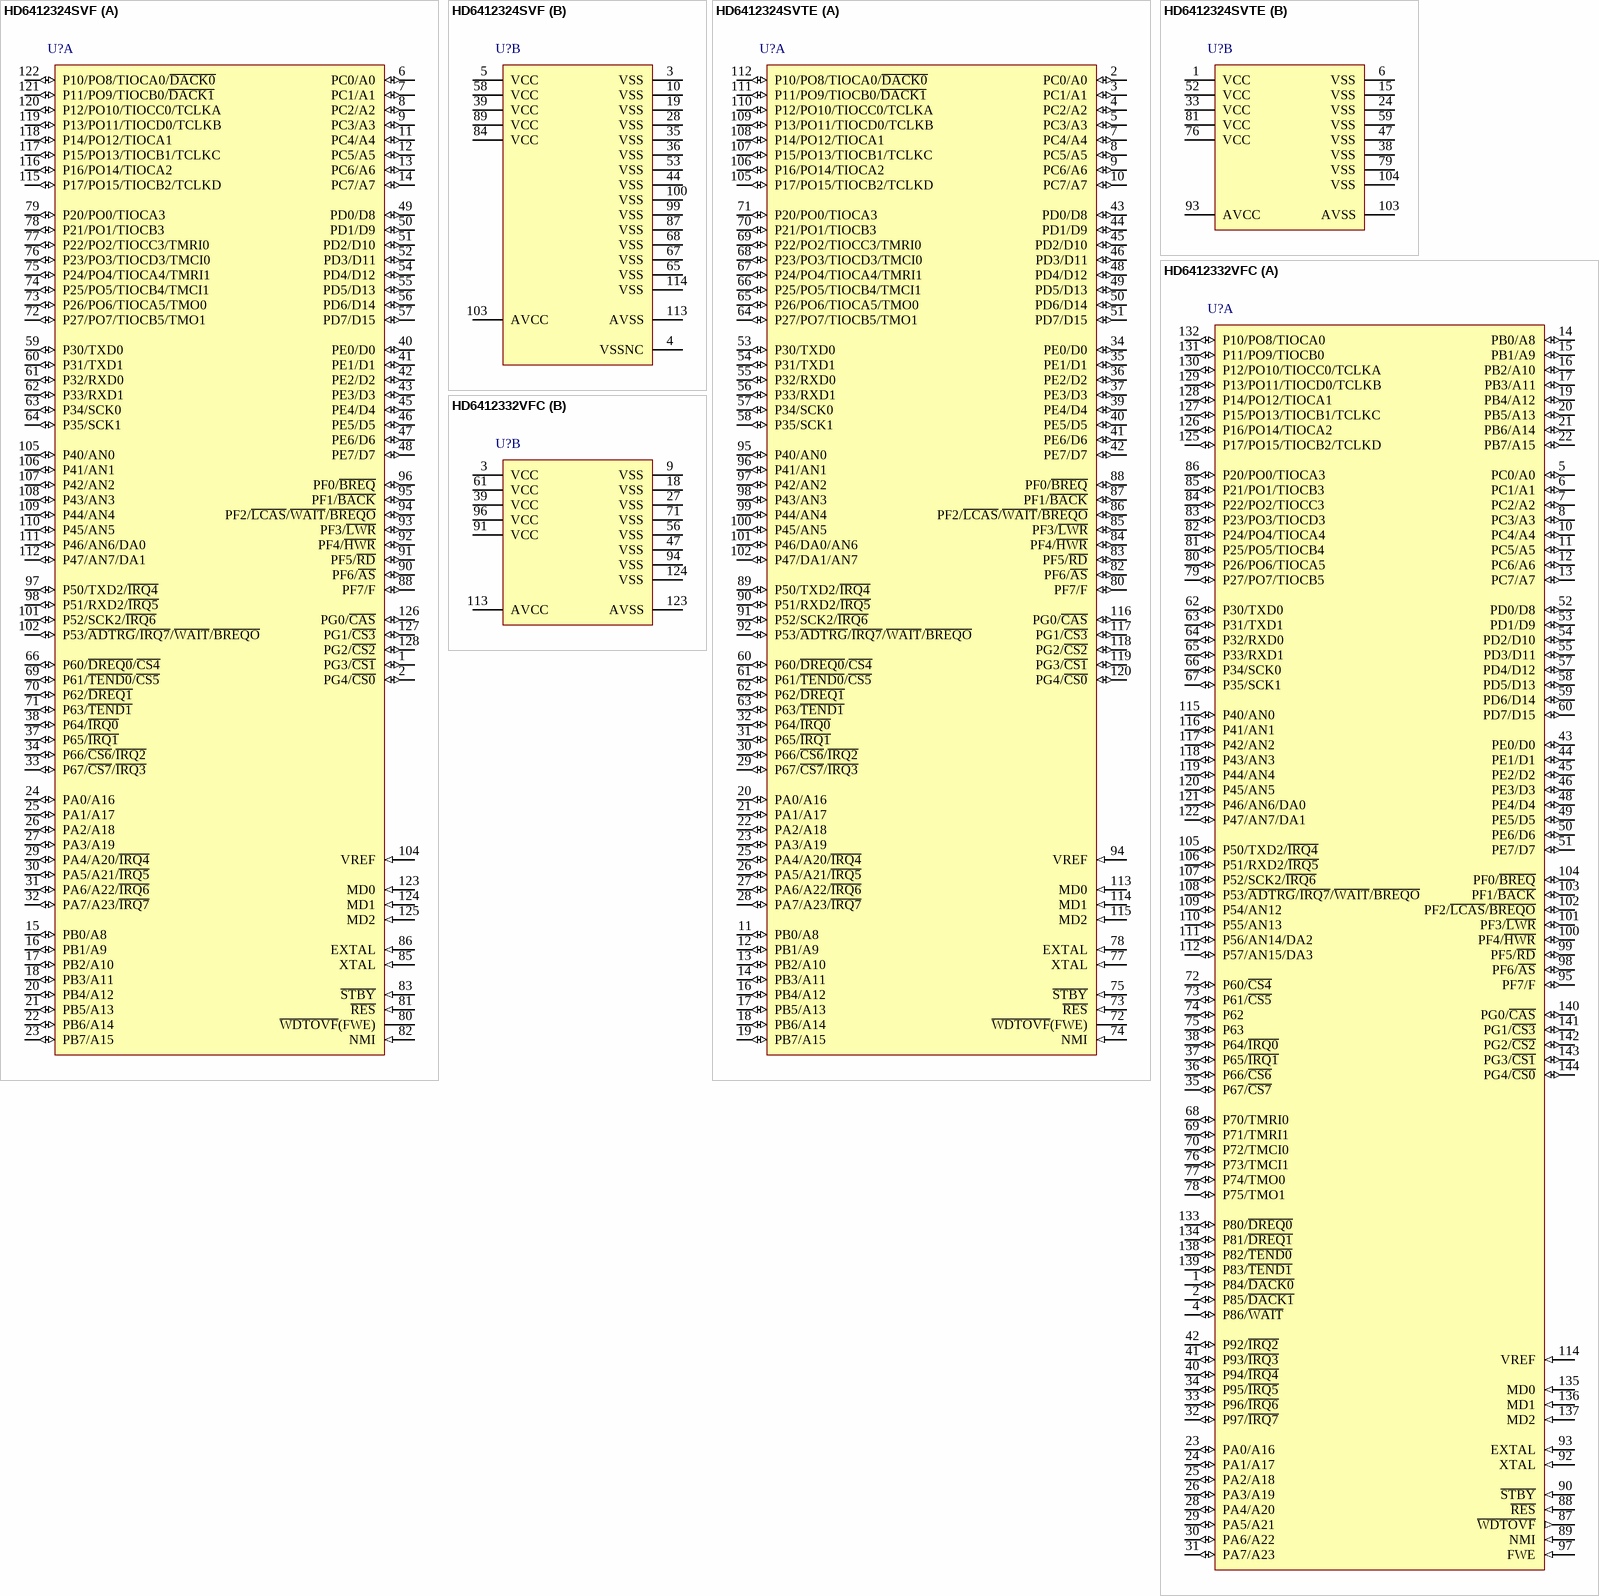
[diagram p91: symbols HD6412324SVF to HD6412332VFC]

## HD6412324SVF
designator U?
ROMless H8S/2300 Series, 2329 Group MCU, 32K RAM, FP-128B Pkg; Published: 28-Aug-2009; DatasheetVersion: Rev.6.00, Sep-2007; PackageVersion: Sep-2005; PackageReference: PRQP0128KB-A; Publisher: Altium Limited; PackageDescription: 128-Pin Plastic Quad Flat Pack, 20 x 14 x 2.7 mm Body, 0.5 mm Pitch; Code_JEITA: P-QFP128-14x20-0.50; Code_IPC: SQFP50P1600X2200-128; ComponentLink1Description: Manufacturer Link; ComponentLink1URL: http://sg.renesas.com/fmwk.jsp?cnt=h8s_family_landing.jsp&fp=/products/mpumcu/h8s_family/; ComponentLink2Description: Datasheet; ComponentLink2URL: http://documentation.renesas.com/eng/products/mpumcu/rej09b0220_h8s2329.pdf; ComponentLink3Description: Packaging Specification; ComponentLink3URL: http://sg.renesas.com/media/products/common_info/package/pdf/ic/code/prqp0128kb_a.pdf
footprint PRQP0128KB-A_N (Shrink QFP, 128-Leads, Body 20x14 mm, Pitch 0.5mm, IPC Medium Density)
footprint PRQP0128KB-A_L (Shrink QFP, 128-Leads, Body 20x14 mm, Pitch 0.5mm, IPC High Density)
footprint PRQP0128KB-A_M (Shrink QFP, 128-Leads, Body 20x14 mm, Pitch 0.5mm, IPC Low Density)
part A pins: 1 PG3/~{CS1} (io), 2 PG4/~{CS0} (io), 6 PC0/A0 (io), 7 PC1/A1 (io), 8 PC2/A2 (io), 9 PC3/A3 (io), 11 PC4/A4 (io), 12 PC5/A5 (io), 13 PC6/A6 (io), 14 PC7/A7 (io), 15 PB0/A8 (io), 16 PB1/A9 (io), 17 PB2/A10 (io), 18 PB3/A11 (io), 20 PB4/A12 (io), 21 PB5/A13 (io), 22 PB6/A14 (io), 23 PB7/A15 (io), 24 PA0/A16 (io), 25 PA1/A17 (io), 26 PA2/A18 (io), 27 PA3/A19 (io), 29 PA4/A20/~{IRQ4} (io), 30 PA5/A21/~{IRQ5} (io), 31 PA6/A22/~{IRQ6} (io), 32 PA7/A23/~{IRQ7} (io), 33 P67/~{CS7}/~{IRQ3} (io), 34 P66/~{CS6}/~{IRQ2} (io), 37 P65/~{IRQ1} (io), 38 P64/~{IRQ0} (io), 40 PE0/D0 (io), 41 PE1/D1 (io), 42 PE2/D2 (io), 43 PE3/D3 (io), 45 PE4/D4 (io), 46 PE5/D5 (io), 47 PE6/D6 (io), 48 PE7/D7 (io), 49 PD0/D8 (io), 50 PD1/D9 (io), 51 PD2/D10 (io), 52 PD3/D11 (io), 54 PD4/D12 (io), 55 PD5/D13 (io), 56 PD6/D14 (io), 57 PD7/D15 (io), 59 P30/TXD0 (io), 60 P31/TXD1 (io), 61 P32/RXD0 (io), 62 P33/RXD1 (io), 63 P34/SCK0 (io), 64 P35/SCK1 (io), 66 P60/~{DREQ0}/~{CS4} (io), 69 P61/~{TEND0}/~{CS5} (io), 70 P62/~{DREQ1} (io), 71 P63/~{TEND1} (io), 72 P27/PO7/TIOCB5/TMO1 (io), 73 P26/PO6/TIOCA5/TMO0 (io), 74 P25/PO5/TIOCB4/TMCI1 (io), 75 P24/PO4/TIOCA4/TMRI1 (io), 76 P23/PO3/TIOCD3/TMCI0 (io), 77 P22/PO2/TIOCC3/TMRI0 (io), 78 P21/PO1/TIOCB3 (io), 79 P20/PO0/TIOCA3 (io), 80 ~{WDTOVF}(FWE), 81 ~{RES} (in), 82 NMI (in), 83 ~{STBY} (in), 85 XTAL (in), 86 EXTAL (in), 88 PF7/F (io), 90 PF6/~{AS} (io), 91 PF5/~{RD} (io), 92 PF4/~{HWR} (io), 93 PF3/~{LWR} (io), 94 PF2/~{LCAS}/~{WAIT}/~{BREQO} (io), 95 PF1/~{BACK} (io), 96 PF0/~{BREQ} (io), 97 P50/TXD2/~{IRQ4} (io), 98 P51/RXD2/~{IRQ5} (io), 101 P52/SCK2/~{IRQ6} (io), 102 P53/~{ADTRG}/~{IRQ7}/~{WAIT}/~{BREQO} (io), 104 VREF (in), 105 P40/AN0 (io), 106 P41/AN1 (io), 107 P42/AN2 (io), 108 P43/AN3 (io), 109 P44/AN4 (io), 110 P45/AN5 (io), 111 P46/AN6/DA0 (io), 112 P47/AN7/DA1 (io), 115 P17/PO15/TIOCB2/TCLKD (io), 116 P16/PO14/TIOCA2 (io), 117 P15/PO13/TIOCB1/TCLKC (io), 118 P14/PO12/TIOCA1 (io), 119 P13/PO11/TIOCD0/TCLKB (io), 120 P12/PO10/TIOCC0/TCLKA (io), 121 P11/PO9/TIOCB0/~{DACK1} (io), 122 P10/PO8/TIOCA0/~{DACK0} (io), 123 MD0 (in), 124 MD1 (in), 125 MD2 (in), 126 PG0/~{CAS} (io), 127 PG1/~{CS3} (io), 128 PG2/~{CS2} (io)
part B pins: 3 VSS (power), 4 VSSNC (power), 5 VCC (power), 10 VSS (power), 19 VSS (power), 28 VSS (power), 35 VSS (power), 36 VSS (power), 39 VCC (power), 44 VSS (power), 53 VSS (power), 58 VCC (power), 65 VSS (power), 67 VSS (power), 68 VSS (power), 84 VCC (power), 87 VSS (power), 89 VCC (power), 99 VSS (power), 100 VSS (power), 103 AVCC (power), 113 AVSS (power), 114 VSS (power)